# Altium schematic symbol library lib.SchLib: 169 symbols
Pins are listed as number, name and electrical type; pins without a type are passive.

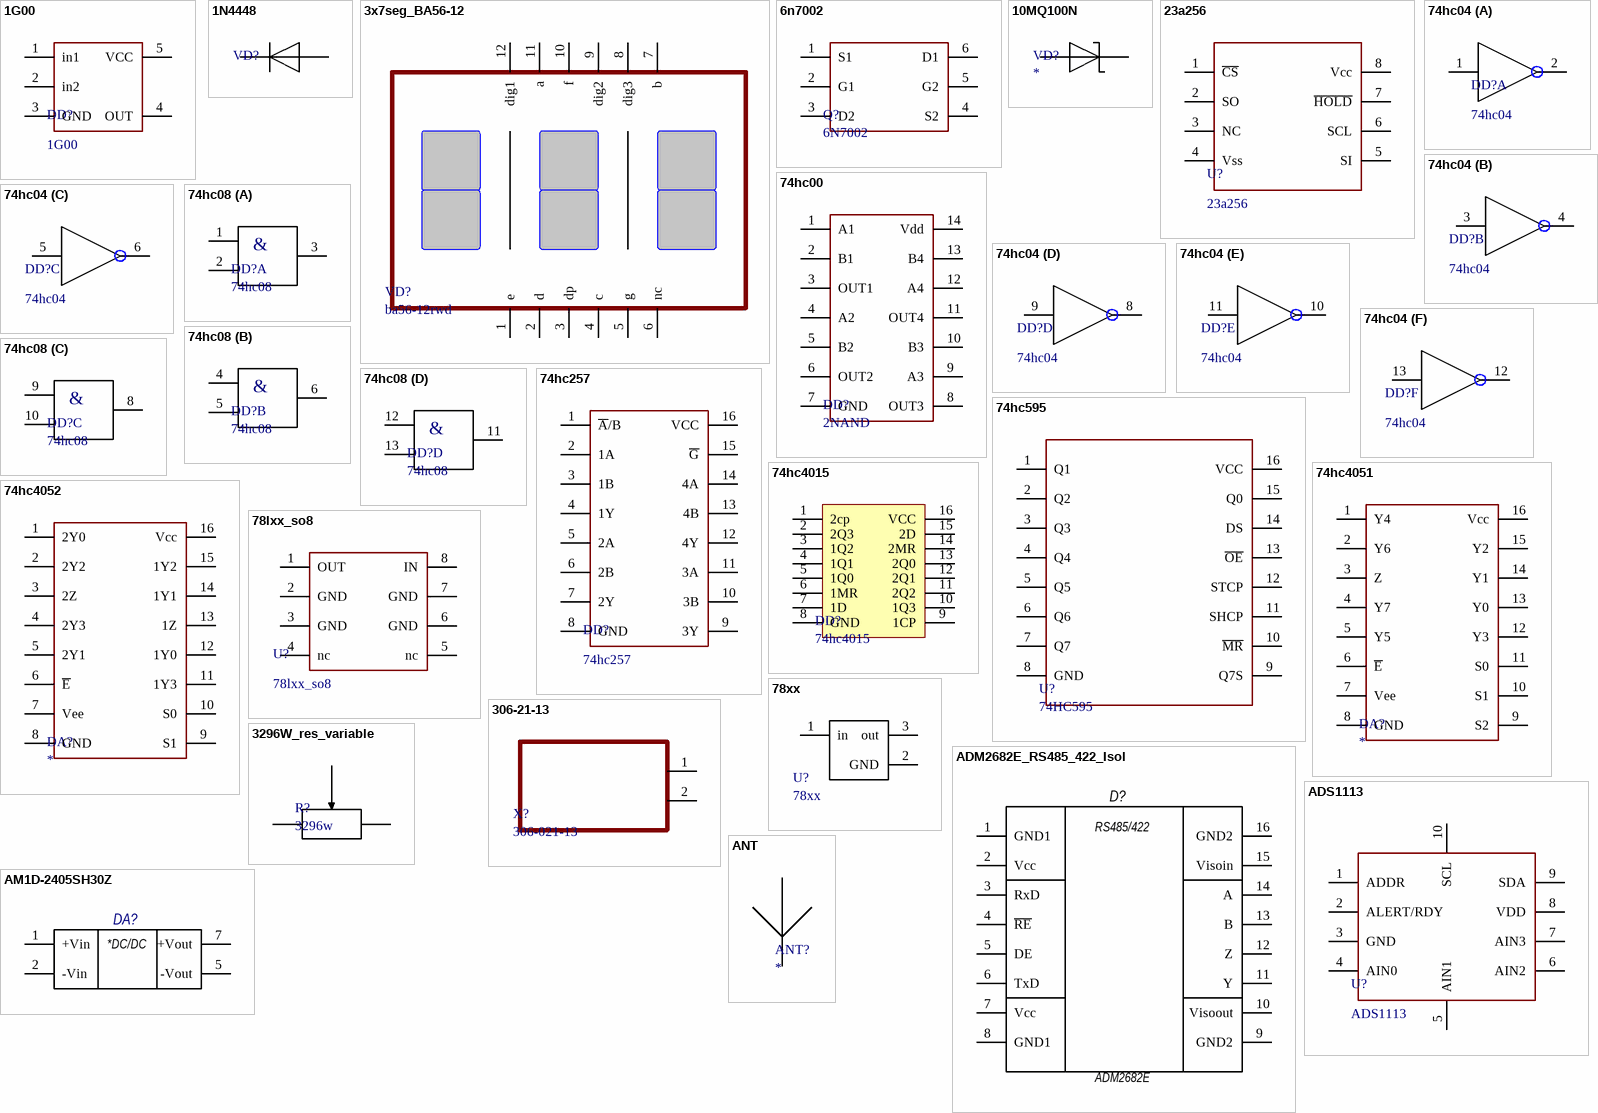
[diagram p0: symbols 1G00 to ANT]

## 1G00
designator DD?
2NAND
footprint sot-23-5
pins: 1 in1, 2 in2, 3 GND, 4 OUT, 5 VCC

## 1N4448
designator VD?  (value not drawn)
footprint SOD-123
footprint sod882
footprint sod-323
pins: A, K

## 3x7seg_BA56-12
designator VD?, comment ba56-12rwd
footprint ba56-12xWA
pins: 1 e, 2 d, 3 dp, 4 c, 5 g, 6 nc, 7 b, 8 dig3, 9 dig2, 10 f, 11 a, 12 dig1

## 6n7002
designator Q?, comment 6N7002
footprint sot-23-6
pins: 1 S1, 2 G1, 3 D2, 4 S2, 5 G2, 6 D1

## 10MQ100N
designator VD?
footprint SMC
footprint SMB
pins: A, K

## 23a256
designator U?
sram
footprint SO-8
pins: 1 ~{CS}, 2 SO, 3 NC, 4 Vss, 5 SI, 6 SCL, 7 ~{HOLD}, 8 Vcc

## 74hc00
designator DD?, comment 2NAND
footprint DIP14
footprint TSSOP14
pins: 1 A1, 2 B1, 3 OUT1, 4 A2, 5 B2, 6 OUT2, 7 GND, 8 OUT3, 9 A3, 10 B3, 11 OUT4, 12 A4, 13 B4, 14 Vdd

## 74hc04
designator DD?
footprint TSSOP14
footprint SO-14
footprint DIP14
part A pins: 1, 2, 7 GND hidden to GND, 14 VCC hidden to VCC
part B pins: 3 1, 4 2
part C pins: 5 1, 6 2
part D pins: 8 2, 9 1
part E pins: 10 2, 11 1
part F pins: 12 2, 13 1

## 74hc08
designator DD?
footprint TSSOP14
footprint DIP14
footprint SO-14
part A pins: 1, 2, 3, 7 GND (power) hidden to GND, 14 VCC (power) hidden to VCC
part B pins: 4 1, 5 2, 6 3
part C pins: 8 3, 9 1, 10 2
part D pins: 11 3, 12 1, 13 2
part A text: &
part B text: &
part C text: &
part D text: &

## 74hc257
designator DD?
footprint TSSOP16
footprint DIP16
footprint SO-16
pins: 1 ~{A}/B, 2 1A, 3 1B, 4 1Y, 5 2A, 6 2B, 7 2Y, 8 GND, 9 3Y, 10 3B, 11 3A, 12 4Y, 13 4B, 14 4A, 15 ~{G}, 16 VCC

## 74hc595
designator U?, comment 74HC595
footprint TSSOP16
pins: 1 Q1, 2 Q2, 3 Q3, 4 Q4, 5 Q5, 6 Q6, 7 Q7, 8 GND, 9 Q7S, 10 ~{MR}, 11 SHCP, 12 STCP, 13 ~{OE}, 14 DS, 15 Q0, 16 VCC

## 74hc4015
designator DD?
footprint SO-16
pins: 1 2cp, 2 2Q3, 3 1Q2, 4 1Q1, 5 1Q0, 6 1MR, 7 1D, 8 GND, 9 1CP, 10 1Q3, 11 2Q2, 12 2Q1, 13 2Q0, 14 2MR, 15 2D, 16 VCC

## 74hc4051
designator DA?
footprint DIP16
footprint TSSOP16
pins: 1 Y4, 2 Y6, 3 Z, 4 Y7, 5 Y5, 6 ~{E}, 7 Vee, 8 GND, 9 S2, 10 S1, 11 S0, 12 Y3, 13 Y0, 14 Y1, 15 Y2, 16 Vcc

## 74hc4052
designator DA?
footprint DIP16
footprint TSSOP16
pins: 1 2Y0, 2 2Y2, 3 2Z, 4 2Y3, 5 2Y1, 6 ~{E}, 7 Vee, 8 GND, 9 S1, 10 S0, 11 1Y3, 12 1Y0, 13 1Z, 14 1Y1, 15 1Y2, 16 Vcc

## 78lxx_so8
designator U?
footprint SO-8
pins: 1 OUT, 2 GND, 3 GND, 4 nc, 5 nc, 6 GND, 7 GND, 8 IN

## 78xx
designator U?
footprint D2PAK
pins: 1 in, 2 GND, 3 out

## 306-21-13
designator X?, comment 306-021-13
footprint 306-021-13
footprint pxc_1868076
footprint DG58C-B-2P13
pins: 1, 2

## 3296W_res_variable
designator R?, comment 3296w
footprint 3296w_bourns
pins: 1, 2, 3

## ADM2682E_RS485_422_Isol
designator D?  Type: ADM2682E  (hidden comment: ADM2682E_RS485_422_Isol)
footprint SOIC_16IC_ (D?)
3D model Model Name (Model Description)
pins: 1 GND1, 2 Vcc, 3 RxD, 4 ~{RE}, 5 DE, 6 TxD, 7 Vcc, 8 GND1, 9 GND2, 10 Visoout, 11 Y, 12 Z, 13 B, 14 A, 15 Visoin, 16 GND2
text: RS485/422

## ADS1113
designator U?
footprint X2QFN-10
pins: 1 ADDR, 2 ALERT/RDY, 3 GND, 4 AIN0, 5 AIN1, 6 AIN2, 7 AIN3, 8 VDD, 9 SDA, 10 SCL

## AM1D-2405SH30Z
designator DA?  (value not drawn)
AM1D-2405SH30Z 21.6-26.4V 5V 200mA 3000V 54мА 6мА 220мкF 77%
footprint AM1D-2405
pins: 1 +Vin (power), 2 -Vin (power), 5 -Vout (power), 7 +Vout (power)
text: *DC/DC

## ANT
designator ANT?
footprint ANT
footprint bluetuth
pins: 1

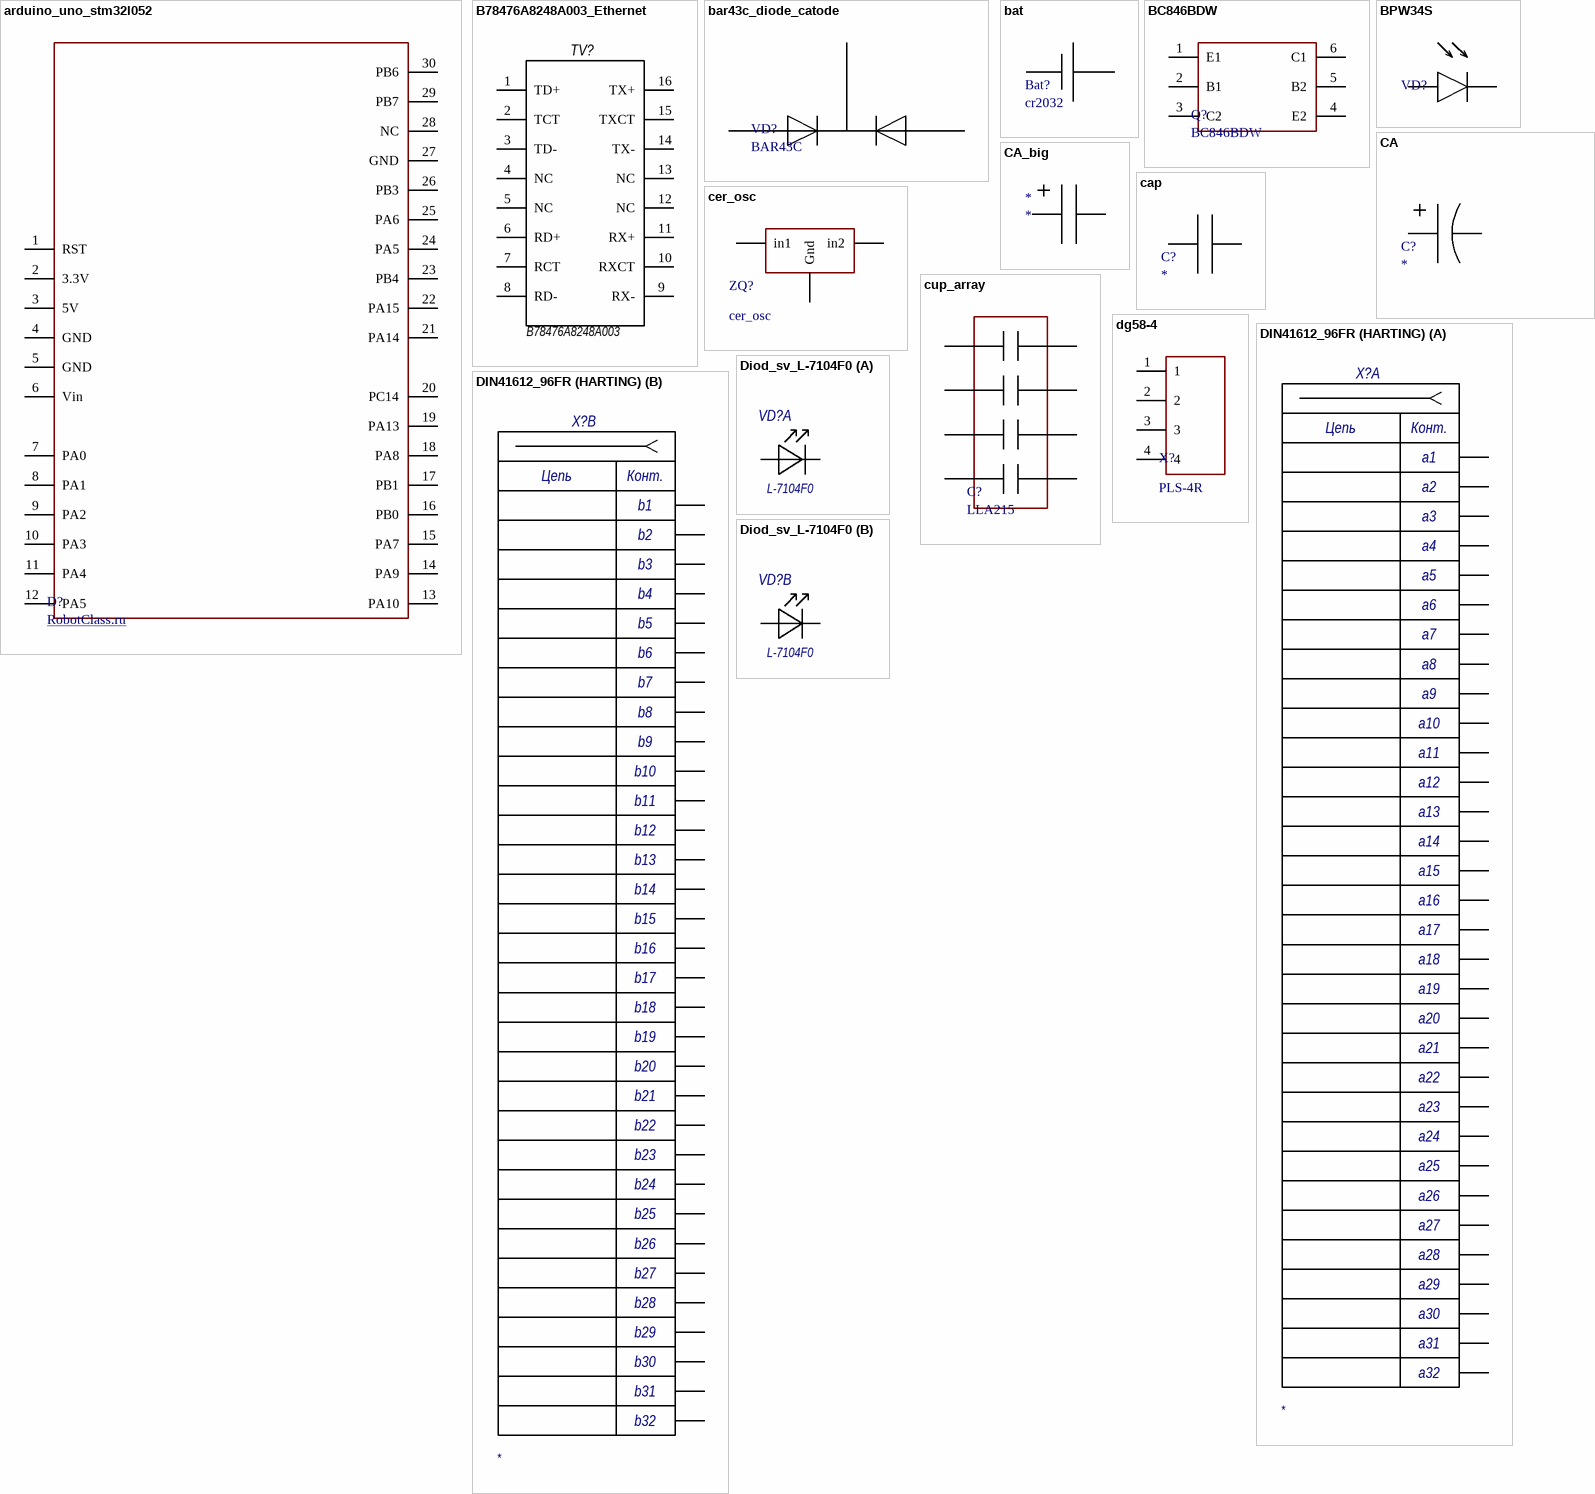
[diagram p1: symbols arduino_uno_stm32l052 to Diod_sv_L-7104F0]

## arduino_uno_stm32l052
designator D?, comment RobotClass.ru
footprint arduino-uno
pins: 1 RST, 2 3.3V, 3 5V, 4 GND, 5 GND, 6 Vin, 7 PA0, 8 PA1, 9 PA2, 10 PA3, 11 PA4, 12 PA5, 13 PA10, 14 PA9, 15 PA7, 16 PB0, 17 PB1, 18 PA8, 19 PA13, 20 PC14, 21 PA14, 22 PA15, 23 PB4, 24 PA5, 25 PA6, 26 PB3, 27 GND, 28 NC, 29 PB7, 30 PB6

## B78476A8248A003_Ethernet
designator TV?, comment Type: B78476A8248A003  (hidden comment: 10/100 Base-T magnetics module)
footprint B78476A8248A003_Ethernet (B78476A8248A003)
pins: 1 TD+, 2 TCT, 3 TD-, 4 NC, 5 NC, 6 RD+, 7 RCT, 8 RD-, 9 RX-, 10 RXCT, 11 RX+, 12 NC, 13 NC, 14 TX-, 15 TXCT, 16 TX+

## bar43c_diode_catode
designator VD?, comment BAR43C
footprint sot23
pins: 1, 2, 3

## bat
designator Bat?, comment cr2032
footprint Bat
pins: +, -

## BC846BDW
designator Q?
footprint sot-23-6
pins: 1 E1, 2 B1, 3 C2, 4 E2, 5 B2, 6 C1

## BPW34S
designator VD?, comment bpw34s  (value not drawn)
photodiode
footprint bpw34s
pins: A, K

## CA
designator C?
footprint СА63_54
footprint tamtalum_d
footprint tantaliumB
footprint radial13x20
pins: 1, 2

## CA_big
designator *
footprint CA_big
pins: 1, 2

## cap
designator C?
footprint 0805 - cap
footprint 1206-cap
footprint 0603_cap
footprint cap_0402
footprint cup-0201
footprint SUPER_CAP
pins: 1, 2

## cer_osc
designator ZQ?
cstcv (murata)
footprint CSTCV
pins: 1 in1, 2 Gnd, 3 in2

## cup_array
designator C?, comment LLA215
footprint cap0805_array
pins: 1, 2, 3, 4, 5, 6, 7, 8

## dg58-4
designator X?, comment PLS-4R
footprint DG58C-B-4P13
pins: 1, 2, 3, 4

## DIN41612_96FR (HARTING)
designator X?
Type: *
footprint DIN41612 3x32 64FR (96-Pin DIN Standard Right Angle Male PCB Mount Connector Розетка)
part A pins: a1, a2, a3, a4, a5, a6, a7, a8, a9, a10, a11, a12, a13, a14, a15, a16, a17, a18, a19, a20, a21, a22, a23, a24, a25, a26, a27, a28, a29, a30, a31, a32
part B pins: b1, b2, b3, b4, b5, b6, b7, b8, b9, b10, b11, b12, b13, b14, b15, b16, b17, b18, b19, b20, b21, b22, b23, b24, b25, b26, b27, b28, b29, b30, b31, b32
part A text: Цепь; Конт.
part B text: Цепь; Конт.

## Diod_sv_L-7104F0
designator VD?  Type: L-7104F0  (hidden comment: *)
footprint L-7104_
part A pins: 1 A1, 2 K1
part B pins: 3 A2, 4 K2

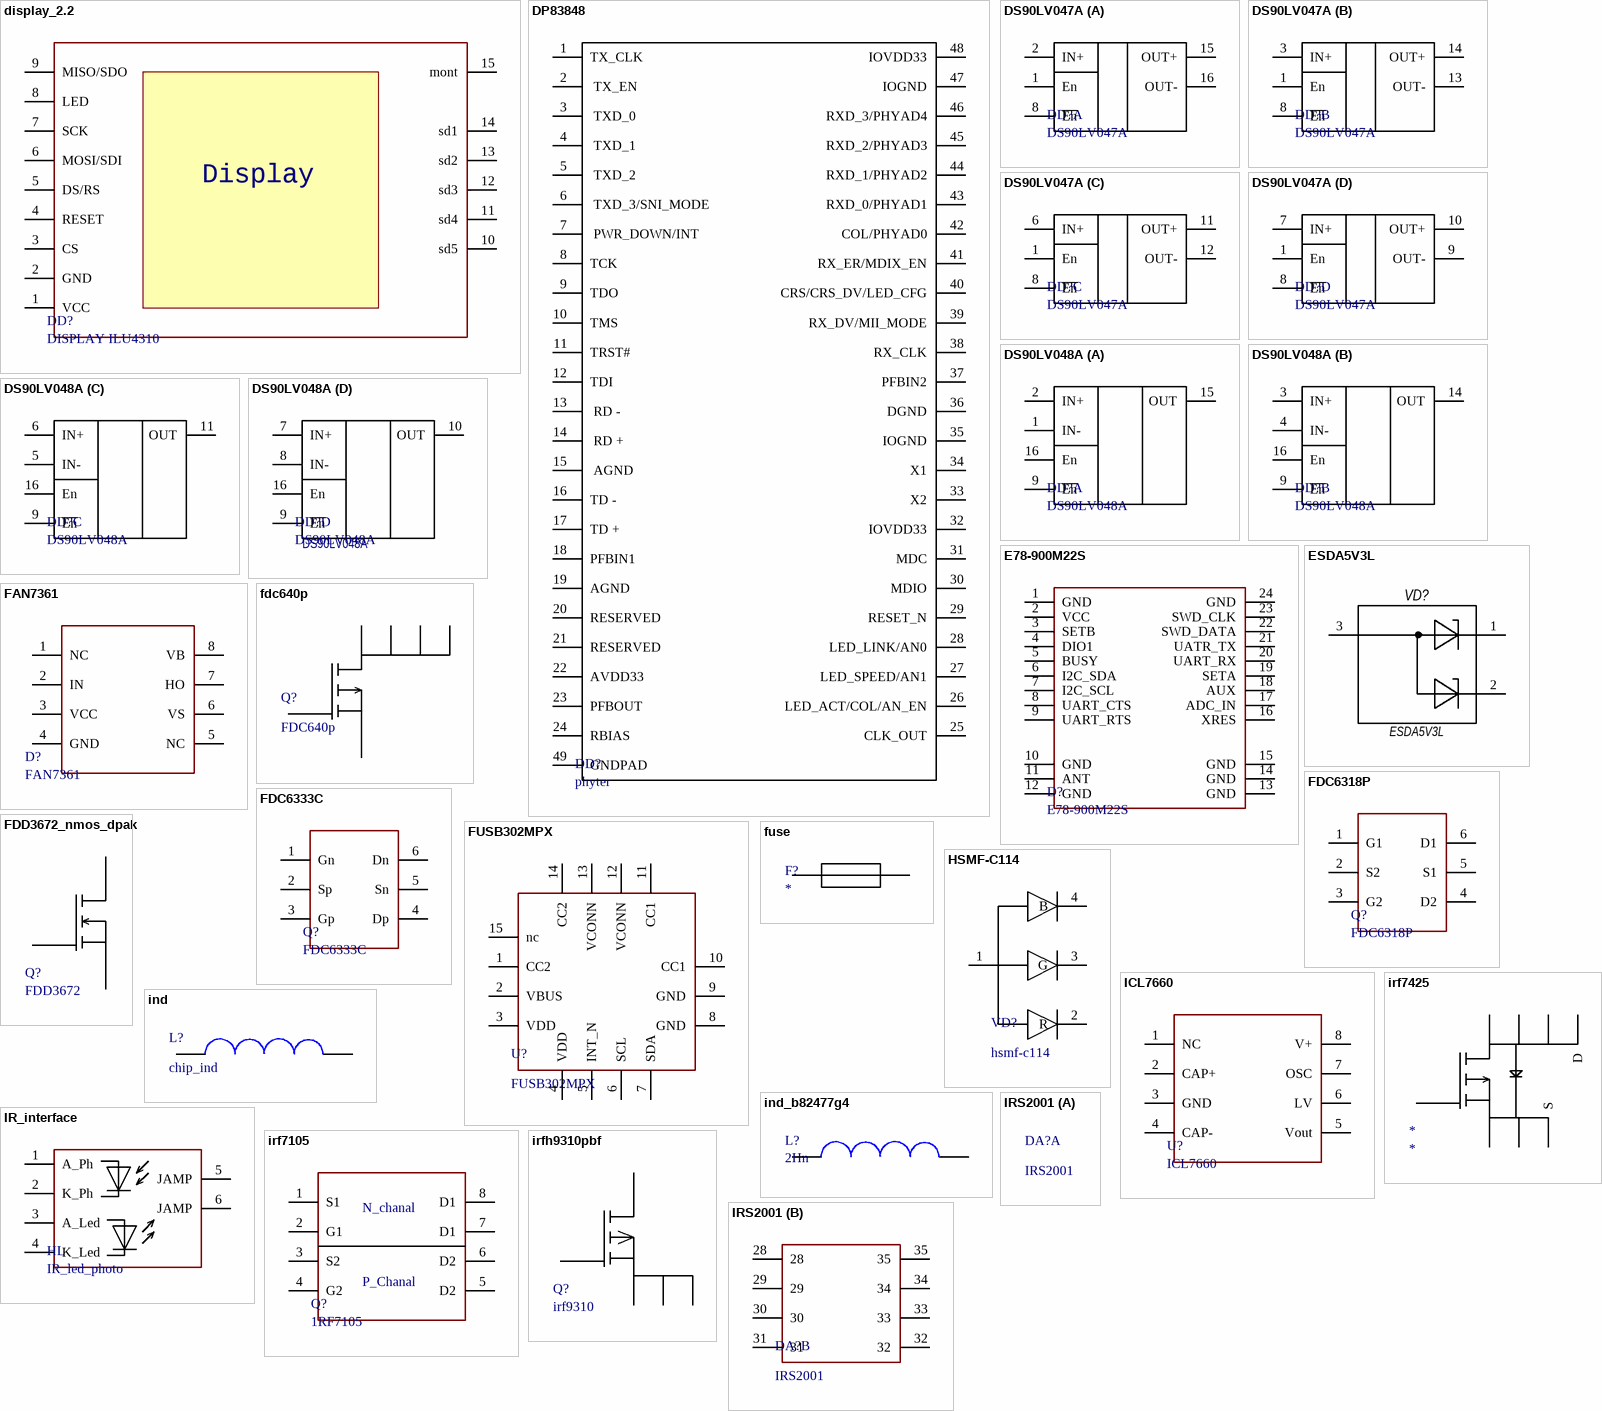
[diagram p2: symbols display_2.2 to IRS2001]

## display_2.2
designator DD?, comment DISPLAY ILU4310
footprint DIP18
pins: 1 VCC, 2 GND, 3 CS, 4 RESET, 5 DS/RS, 6 MOSI/SDI, 7 SCK, 8 LED, 9 MISO/SDO, 10 sd5, 11 sd4, 12 sd3, 13 sd2, 14 sd1, 15 mont
text: Display

## DP83848
designator DD?, comment phyter
footprint HVQFP48
pins: 1 TX_CLK, 2  TX_EN , 3  TXD_0 , 4  TXD_1 , 5  TXD_2 , 6  TXD_3/SNI_MODE , 7  PWR_DOWN/INT , 8 TCK , 9 TDO , 10 TMS , 11 TRST# , 12 TDI , 13  RD - , 14  RD + , 15  AGND , 16 TD - , 17 TD + , 18 PFBIN1 , 19 AGND, 20 RESERVED , 21 RESERVED , 22 AVDD33 , 23 PFBOUT , 24 RBIAS , 25 CLK_OUT, 26 LED_ACT/COL/AN_EN, 27 LED_SPEED/AN1, 28  LED_LINK/AN0, 29 RESET_N, 30 MDIO, 31 MDC, 32  IOVDD33, 33  X2, 34 X1, 35  IOGND, 36  DGND, 37 PFBIN2, 38  RX_CLK, 39 RX_DV/MII_MODE, 40 CRS/CRS_DV/LED_CFG, 41 RX_ER/MDIX_EN, 42 COL/PHYAD0, 43 RXD_0/PHYAD1, 44  RXD_1/PHYAD2, 45 RXD_2/PHYAD3, 46 RXD_3/PHYAD4, 47  IOGND, 48 IOVDD33, 49 GNDPAD

## DS90LV047A
designator DD?
footprint TSSOP16
part A pins: 1 En, 2 IN+, 4 VCC (power) hidden to VCC, 5 GND (power) hidden to GND, 8 ~{En}, 15 OUT+, 16 OUT-
part B pins: 1 En, 3 IN+, 4 VCC (power) hidden to VCC, 5 GND (power) hidden to GND, 8 ~{En}, 13 OUT-, 14 OUT+
part C pins: 1 En, 4 VCC (power) hidden to VCC, 5 GND (power) hidden to GND, 6 IN+, 8 ~{En}, 11 OUT+, 12 OUT-
part D pins: 1 En, 4 VCC (power) hidden to VCC, 5 GND (power) hidden to GND, 7 IN+, 8 ~{En}, 9 OUT-, 10 OUT+

## DS90LV048A
designator DD?
footprint TSSOP16
part A pins: 1 IN-, 2 IN+, 9 ~{En}, 12 GND (power) hidden to GND, 13 VCC (power) hidden to VCC, 15 OUT, 16 En
part B pins: 3 IN+, 4 IN-, 9 ~{En}, 12 GND (power) hidden to GND, 13 VCC (power) hidden to VCC, 14 OUT, 16 En
part C pins: 5 IN-, 6 IN+, 9 ~{En}, 11 OUT, 12 GND (power) hidden to GND, 13 VCC (power) hidden to VCC, 16 En
part D pins: 7 IN+, 8 IN-, 9 ~{En}, 10 OUT, 12 GND (power) hidden to GND, 13 VCC (power) hidden to VCC, 16 En

## E78-900M22S
designator D?
LoaWAN
footprint E78-900M22S
pins: 1 GND, 2 VCC, 3 SETB, 4 DIO1, 5 BUSY, 6 I2C_SDA, 7 I2C_SCL, 8 UART_CTS, 9 UART_RTS, 10 GND, 11 ANT, 12 GND, 13 GND, 14 GND, 15 GND, 16 XRES, 17 ADC_IN, 18 AUX, 19 SETA, 20 UART_RX, 21 UATR_TX, 22 SWD_DATA, 23 SWD_CLK, 24 GND

## ESDA5V3L
designator VD?
Type: ESDA5V3L
footprint sot23
pins: 1, 2, 3

## FAN7361
designator D?
mosfet high level
footprint SOP8
pins: 1 NC, 2 IN, 3 VCC, 4 GND, 5 NC, 6 VS, 7 HO, 8 VB

## fdc640p
designator Q?, comment FDC640p
footprint sot-23-6
pins: 1 D, 2 D, 3 G, 4 S, 5 D, 6 D

## FDC6318P
designator Q?
footprint sot-23-6
pins: 1 G1, 2 S2, 3 G2, 4 D2, 5 S1, 6 D1

## FDC6333C
designator Q?
footprint sot-23-6
pins: 1 Gn, 2 Sp, 3 Gp, 4 Dp, 5 Sn, 6 Dn

## FDD3672_nmos_dpak
designator Q?, comment FDD3672
footprint d-pak
pins: 1 G, 2 D, 3 S

## FUSB302MPX
designator U?
footprint MLP14
pins: 1 CC2, 2 VBUS, 3 VDD, 4 VDD, 5 INT_N, 6 SCL, 7 SDA, 8 GND, 9 GND, 10 CC1, 11 CC1, 12 VCONN, 13 VCONN, 14 CC2, 15 nc

## fuse
designator F?
footprint 1812
footprint fuse1210
pins: 1, 2

## HSMF-C114
designator VD?, comment hsmf-c114
footprint RGB_led
footprint LNJ757W86RA
pins: 1, 2 R, 3 G, 4 B

## ICL7660
designator U?
footprint SO-8
pins: 1 NC, 2 CAP+, 3 GND, 4 CAP-, 5 Vout, 6 LV, 7 OSC, 8 V+

## ind
designator L?, comment chip_ind
footprint 0603_ind
footprint 0805-ind
footprint 1210-ind
footprint ind_0402
pins: 1, 2

## ind_b82477g4
designator L?, comment 2Hn
footprint B82477G4
footprint RM6_inductor
footprint srp1038a
footprint ihlp5050
footprint ihlp4040
footprint 2012_ind
footprint ihlp2525
footprint ihlp6767GZ-01
footprint ifsc1515
footprint ihlp2020
footprint ihlp1616bz
footprint ihlp5050fd
pins: 1, 2

## IR_interface
designator HL, comment IR_led_photo
footprint IR_interface
pins: 1 A_Ph, 2 K_Ph, 3 A_Led, 4 K_Led, 5 JAMP, 6 JAMP

## irf7105
designator Q?, comment 1RF7105
footprint SO-8
pins: 1 S1, 2 G1, 3 S2, 4 G2, 5 D2, 6 D2, 7 D1, 8 D1
text: N_chanal; P_Chanal

## irf7425
designator *
footprint SO-8
pins: 1 S, 2 S, 3 S, 4 G, 5 D, 6 D, 7 D, 8 D

## irfh9310pbf
designator Q?, comment irf9310
footprint powerFLAT_5x6
footprint TSDSON-8
pins: 1 S, 2 S, 3 S, 4 G, 5 D

## IRS2001
designator DA?
half brige
part B pins: 28, 29, 30, 31, 32, 33, 34, 35

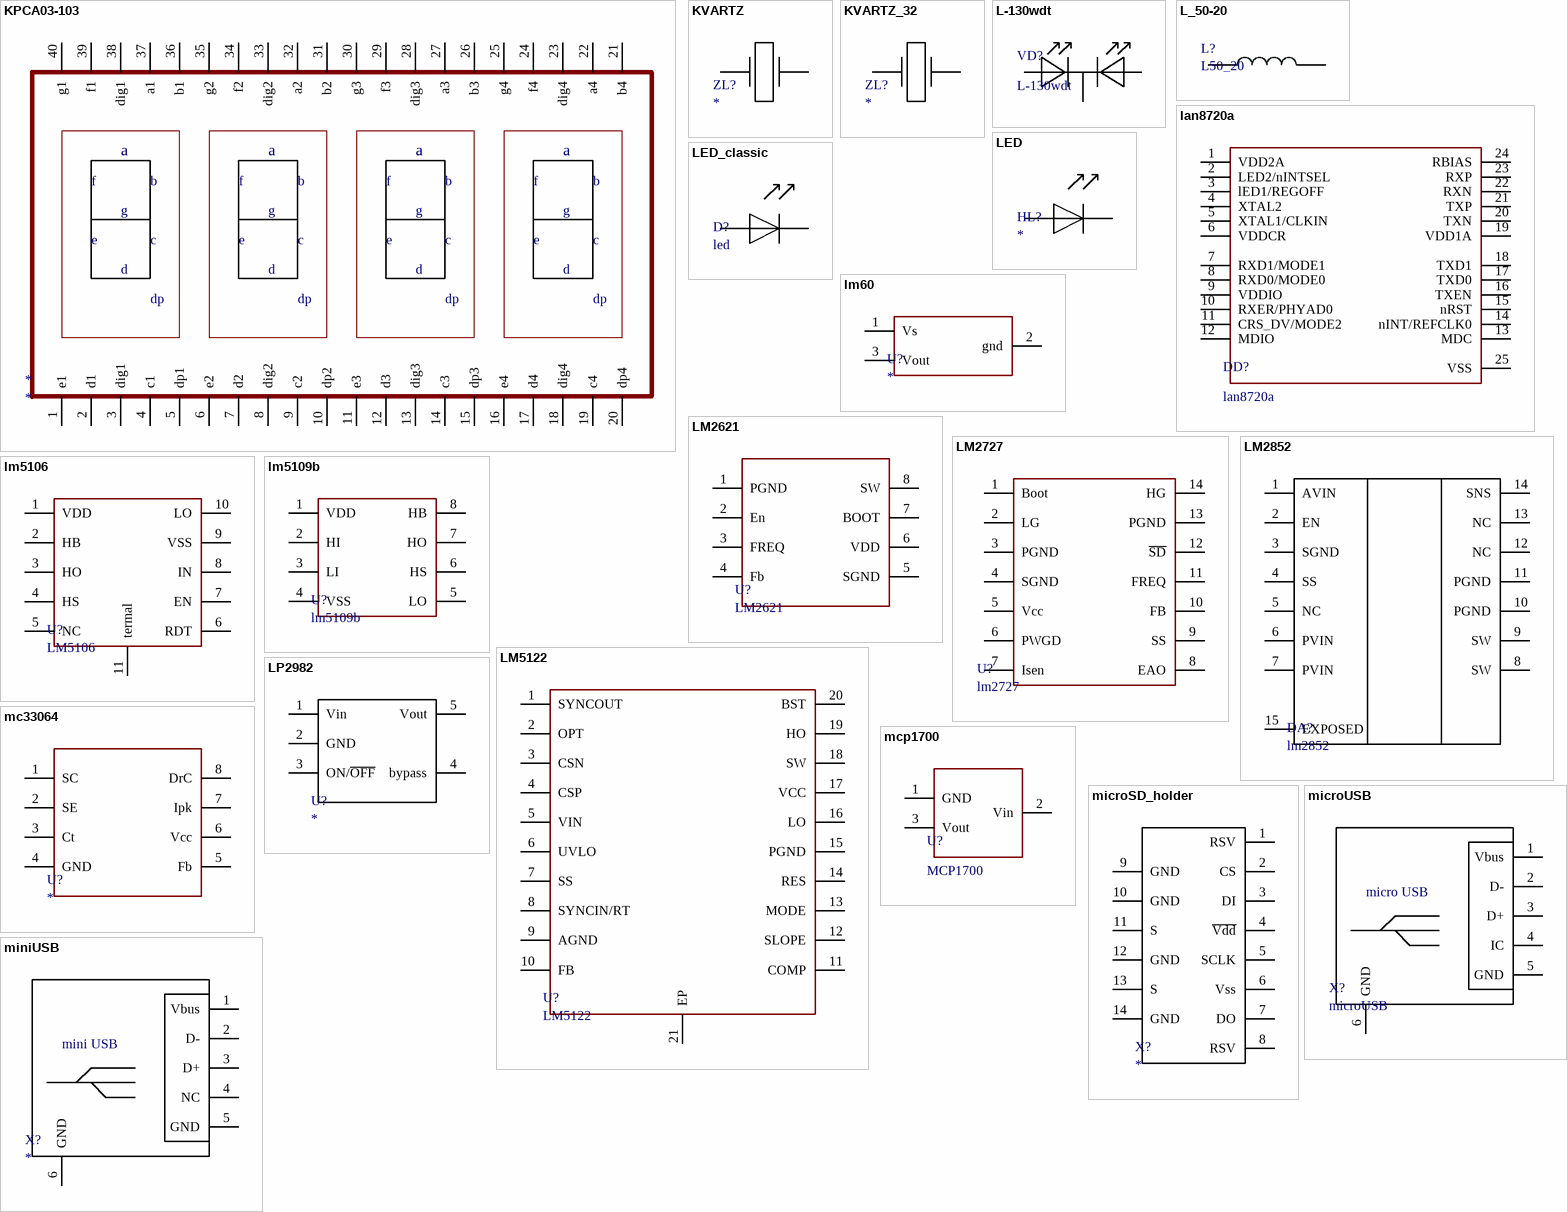
[diagram p3: symbols KPCA03-103 to miniUSB]

## KPCA03-103
designator *
footprint kpca03-103
pins: 1 e1, 2 d1, 3 dig1, 4 c1, 5 dp1, 6 e2, 7 d2, 8 dig2, 9 c2, 10 dp2, 11 e3, 12 d3, 13 dig3, 14 c3, 15 dp3, 16 e4, 17 d4, 18 dig4, 19 c4, 20 dp4, 21 b4, 22 a4, 23 dig4, 24 f4, 25 g4, 26 b3, 27 a3, 28 dig3, 29 f3, 30 g3, 31 b2, 32 a2, 33 dig2, 34 f2, 35 g2, 36 b1, 37 a1, 38 dig1, 39 f1, 40 g1
text: a; f; b; g; e; c; d; dp

## KVARTZ
designator ZL?
footprint tsx-3225
footprint HC49US
footprint fa-128
pins: 1, 2

## KVARTZ_32
designator ZL?
footprint kvartz32
footprint zm206
pins: 1, 2

## L-130wdt
designator VD?
footprint L-130WDT
pins: 1 A1, 2 K, 3 A2

## L_50-20
designator L?, comment L50_20
footprint L50-20
pins: 1, 2

## lan8720a
designator DD?
phy rmii
footprint Qfn24
pins: 1 VDD2A, 2 LED2/nINTSEL, 3 lED1/REGOFF, 4 XTAL2, 5 XTAL1/CLKIN, 6 VDDCR, 7 RXD1/MODE1, 8 RXD0/MODE0, 9 VDDIO, 10 RXER/PHYAD0, 11 CRS_DV/MODE2, 12 MDIO, 13 MDC, 14 nINT/REFCLK0, 15 nRST, 16 TXEN, 17 TXD0, 18 TXD1, 19 VDD1A, 20 TXN, 21 TXP, 22 RXN, 23 RXP, 24 RBIAS, 25 VSS

## LED
designator HL?
footprint 0603_led
footprint led_0805
pins: A 1, K 2

## LED_classic
designator D?, comment led
footprint LED_classic
pins: 1, 2

## lm60
designator U?
footprint sot23
pins: 1 Vs, 2 gnd, 3 Vout

## LM2621
designator U?
footprint VSSOP_8
pins: 1 PGND, 2 En, 3 FREQ, 4 Fb, 5 SGND, 6 VDD, 7 BOOT, 8 SW

## LM2727
designator U?, comment lm2727
footprint TSSOP14
pins: 1 Boot, 2 LG, 3 PGND, 4 SGND, 5 Vcc, 6 PWGD, 7 Isen, 8 EAO, 9 SS, 10 FB, 11 FREQ, 12 ~{SD}, 13 PGND, 14 HG

## LM2852
designator DA?, comment lm2852
footprint HTSSOP14N (TSSOP, 14-Leads, Body 5,00x4,40mm, Pitch 0,65mm, IPC Medium Density)
pins: 1 AVIN, 2 EN, 3 SGND, 4 SS, 5 NC, 6 PVIN, 7 PVIN, 8 SW, 9 SW, 10 PGND, 11 PGND, 12 NC, 13 NC, 14 SNS, 15 EXPOSED

## lm5106
designator U?, comment LM5106
footprint wson10
pins: 1 VDD, 2 HB, 3 HO, 4 HS, 5 NC, 6 RDT, 7 EN, 8 IN, 9 VSS, 10 LO, 11 termal

## lm5109b
designator U?
footprint SO-8
pins: 1 VDD, 2 HI, 3 LI, 4 VSS, 5 LO, 6 HS, 7 HO, 8 HB

## LM5122
designator U?
footprint HTSSOP20
pins: 1 SYNCOUT, 2 OPT, 3 CSN, 4 CSP, 5 VIN, 6 UVLO, 7 SS, 8 SYNCIN/RT, 9 AGND, 10 FB, 11 COMP, 12 SLOPE, 13 MODE, 14 RES, 15 PGND, 16 LO, 17 VCC, 18 SW, 19 HO, 20 BST, 21 EP

## LP2982
designator U?
footprint sot-23
footprint sot-23-5
pins: 1 Vin, 2 GND, 3 ON/~{OFF}, 4 bypass, 5 Vout

## mc33064
designator U?
footprint SO-8
pins: 1 SC, 2 SE, 3 Ct, 4 GND, 5 Fb, 6 Vcc, 7 Ipk, 8 DrC

## mcp1700
designator U?, comment MCP1700
footprint sot23
pins: 1 GND, 2 Vin, 3 Vout

## microSD_holder
designator X?
footprint microSDholder
pins: 1 RSV, 2 CS, 3 DI, 4 ~{Vdd}, 5 SCLK, 6 Vss, 7 DO, 8 RSV, 9 GND, 10 GND, 11 S, 12 GND, 13 S, 14 GND

## microUSB
designator X?
footprint microUSB
pins: 1 Vbus, 2 D-, 3 D+, 4 IC, 5 GND, 6 GND
text: micro USB

## miniUSB
designator X?
footprint miniUSB
pins: 1 Vbus, 2 D-, 3 D+, 4 NC, 5 GND, 6 GND
text: mini USB

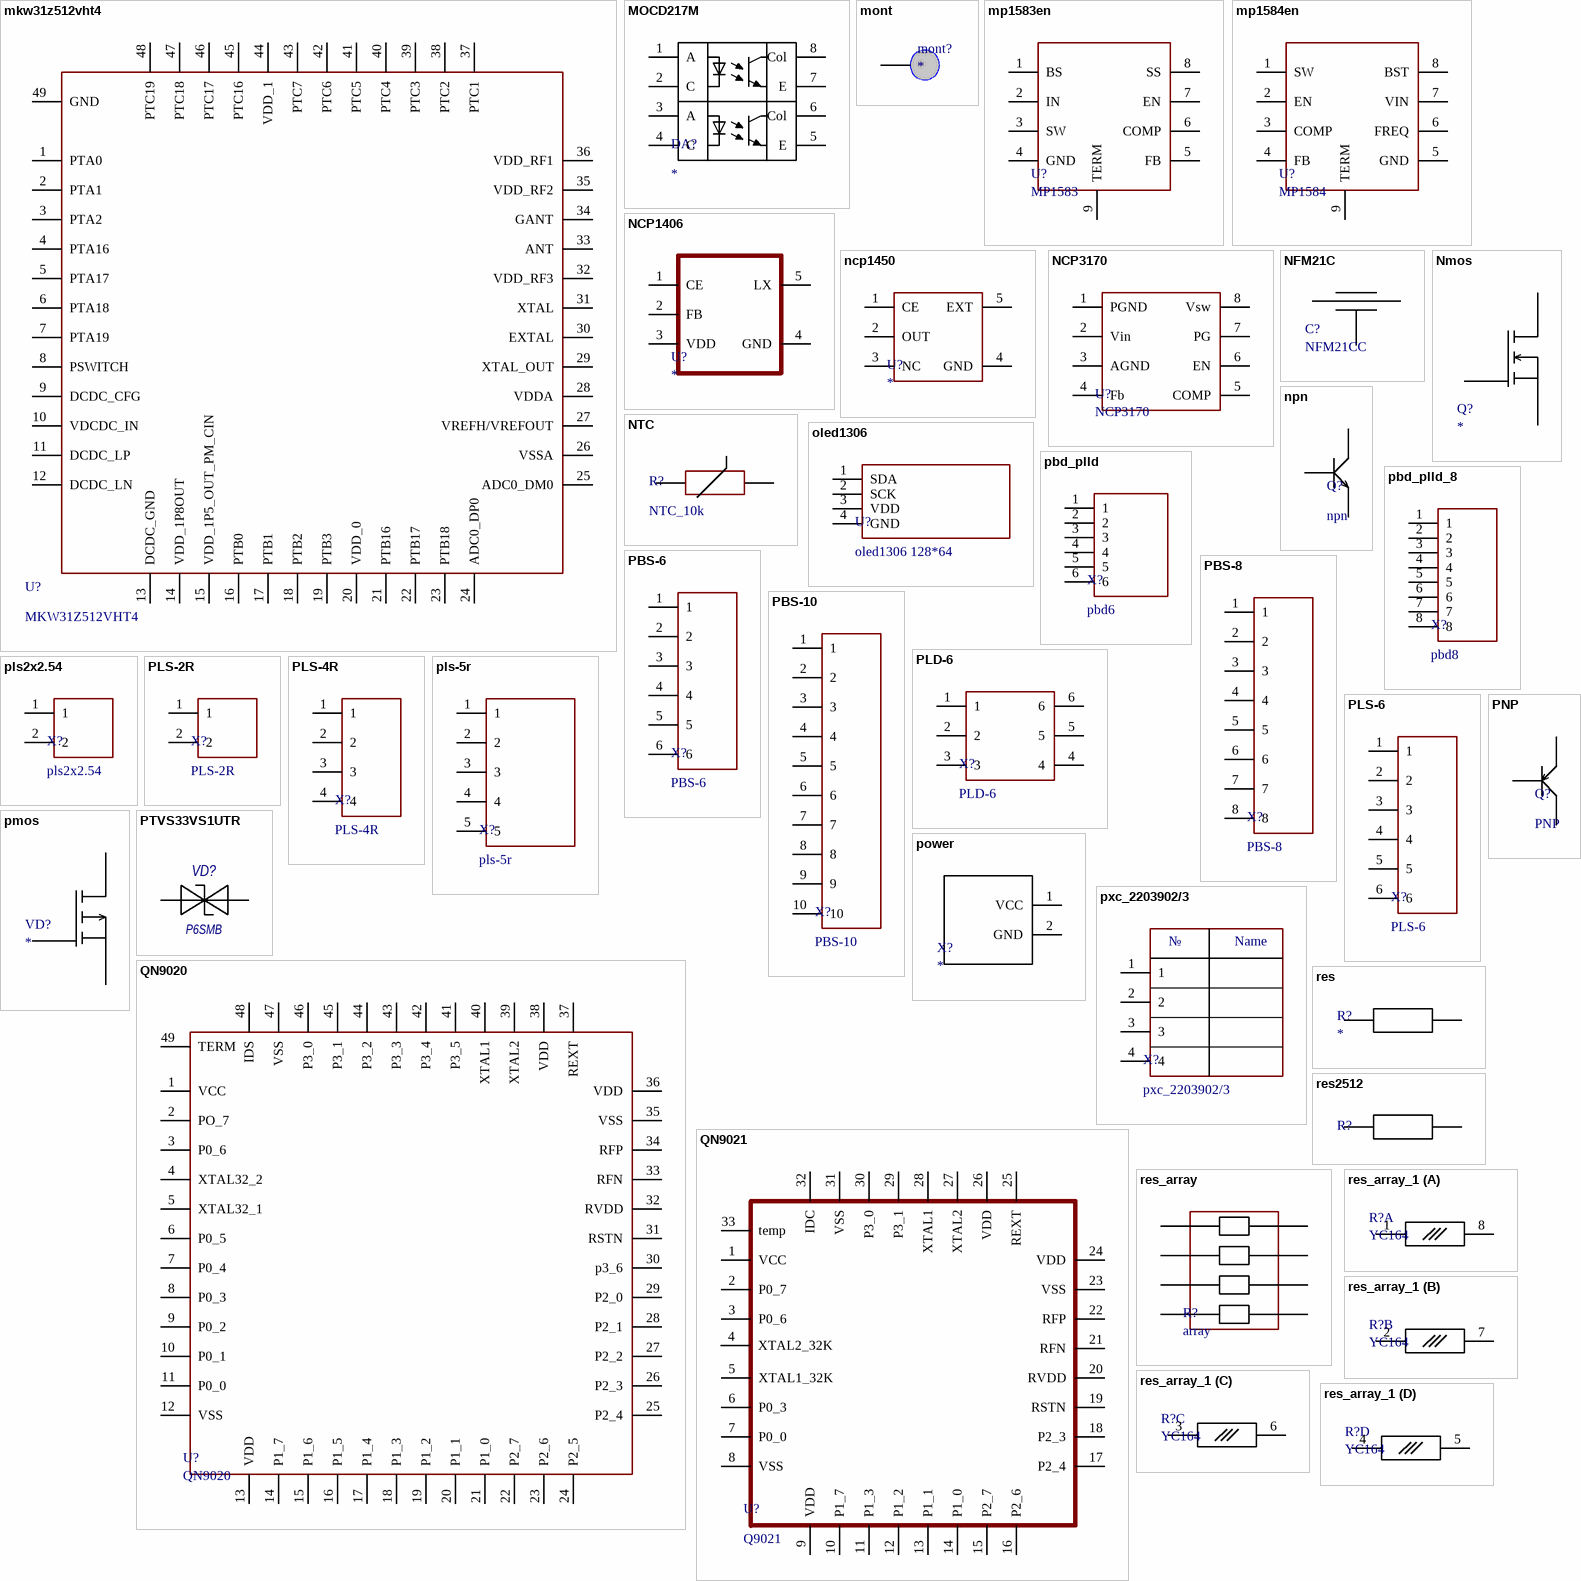
[diagram p4: symbols mkw31z512vht4 to res_array_1]

## mkw31z512vht4
designator U?, comment MKW31Z512VHT4
footprint LQFN48
pins: 1 PTA0, 2 PTA1, 3 PTA2, 4 PTA16, 5 PTA17, 6 PTA18, 7 PTA19, 8 PSWITCH, 9 DCDC_CFG, 10 VDCDC_IN, 11 DCDC_LP, 12 DCDC_LN, 13 DCDC_GND, 14 VDD_1P8OUT, 15 VDD_1P5_OUT_PM_CIN, 16 PTB0, 17 PTB1, 18 PTB2, 19 PTB3, 20 VDD_0, 21 PTB16, 22 PTB17, 23 PTB18, 24 ADC0_DP0, 25 ADC0_DM0, 26 VSSA, 27 VREFH/VREFOUT, 28 VDDA, 29 XTAL_OUT, 30 EXTAL, 31 XTAL, 32 VDD_RF3, 33 ANT, 34 GANT, 35 VDD_RF2, 36 VDD_RF1, 37 PTC1, 38 PTC2, 39 PTC3, 40 PTC4, 41 PTC5, 42 PTC6, 43 PTC7, 44 VDD_1, 45 PTC16, 46 PTC17, 47 PTC18, 48 PTC19, 49 GND

## MOCD217M
designator DA?
dual optopair
footprint SO-8_optocup
pins: 1 A, 2 C, 3 A, 4 C, 5 E, 6 Col, 7 E, 8 Col

## mont
designator mont?
footprint mont
pins: 1

## mp1583en
designator U?, comment MP1583
footprint SO-8E
pins: 1 BS, 2 IN, 3 SW, 4 GND, 5 FB, 6 COMP, 7 EN, 8 SS, 9 TERM

## mp1584en
designator U?, comment MP1584
footprint SO-8E
pins: 1 SW, 2 EN, 3 COMP, 4 FB, 5 GND, 6 FREQ, 7 VIN, 8 BST, 9 TERM

## NCP1406
designator U?
footprint sot-23-5
pins: 1 CE, 2 FB, 3 VDD, 4 GND, 5 LX

## ncp1450
designator U?
footprint sot-23-5
pins: 1 CE, 2 OUT, 3 NC, 4 GND, 5 EXT

## NCP3170
designator U?
footprint SO-8
pins: 1 PGND, 2 Vin, 3 AGND, 4 Fb, 5 COMP, 6 EN, 7 PG, 8 Vsw

## NFM21C
designator C?, comment NFM21CC
NFM21CC102R1H3
footprint NFM21C
pins: 1 in, 2 out, 3 Gnd

## Nmos
designator Q?
footprint sot23
pins: 1 G, 2 D, 3 S

## npn
designator Q?
bc817
footprint sot23
footprint d-pak
pins: 1 B, 2 K, 3 E

## NTC
designator R?, comment NTC_10k
footprint ntc_jt_103
pins: 1, 2

## oled1306
designator U?, comment oled1306 128*64
footprint oled1306
pins: 1 SDA, 2 SCK, 3 VDD, 4 GND

## pbd_plld
designator X?, comment pbd6
footprint pbd
footprint plld
pins: 1, 2, 3, 4, 5, 6

## pbd_plld_8
designator X?, comment pbd8
footprint pbd8
footprint pllb8
pins: 1, 2, 3, 4, 5, 6, 7, 8

## PBS-6
designator X?
footprint PBS6
pins: 1, 2, 3, 4, 5, 6

## PBS-8
designator X?
footprint PBS8
pins: 1, 2, 3, 4, 5, 6, 7, 8

## PBS-10
designator X?
footprint pbs-10
pins: 1, 2, 3, 4, 5, 6, 7, 8, 9, 10

## PLD-6
designator X?
footprint PLD6
pins: 1, 2, 3, 4, 5, 6

## pls2x2.54
designator X?
footprint pls2x2.54
pins: 1, 2

## PLS-2R
designator X?
footprint pls-2r
pins: 1, 2

## PLS-4R
designator X?
footprint pls-4r
pins: 1, 2, 3, 4

## pls-5r
designator X?
footprint pls-5r
pins: 1, 2, 3, 4, 5

## PLS-6
designator X?
footprint PLS6
pins: 1, 2, 3, 4, 5, 6

## pmos
designator VD?
footprint sot23
footprint d-pak
pins: 1 G, 2 S, 3 D

## PNP
designator Q?
footprint sot23
pins: 1 B, 2 E, 3 K

## power
designator X?
footprint POWER
pins: 1 VCC, 2 GND

## PTVS33VS1UTR
designator VD?  Type: P6SMB  (hidden comment: *)
PTVS33VS1UTR,115, TVS DIODE 33VWM 53.3VC SOD123W
footprint SOD-123
pins: A, K

## pxc_2203902/3
designator X?
footprint pxc_2203902
footprint pxc_2203903
pins: 1, 2, 3, 4
text: №; Name

## QN9020
designator U?
footprint hvqfn48
pins: 1 VCC, 2 PO_7, 3 P0_6, 4 XTAL32_2, 5 XTAL32_1, 6 P0_5, 7 P0_4, 8 P0_3, 9 P0_2, 10 P0_1, 11 P0_0, 12 VSS, 13 VDD, 14 P1_7, 15 P1_6, 16 P1_5, 17 P1_4, 18 P1_3, 19 P1_2, 20 P1_1, 21 P1_0, 22 P2_7, 23 P2_6, 24 P2_5, 25 P2_4, 26 P2_3, 27 P2_2, 28 P2_1, 29 P2_0, 30 p3_6, 31 RSTN, 32 RVDD, 33 RFN, 34 RFP, 35 VSS, 36 VDD, 37 REXT, 38 VDD, 39 XTAL2, 40 XTAL1, 41 P3_5, 42 P3_4, 43 P3_3, 44 P3_2, 45 P3_1, 46 P3_0, 47 VSS, 48 IDS, 49 TERM

## QN9021
designator U?, comment Q9021
nxp with bluetuch controller
footprint HVQFN32
pins: 1 VCC, 2 P0_7, 3 P0_6, 4 XTAL2_32K, 5 XTAL1_32K, 6 P0_3, 7 P0_0, 8 VSS, 9 VDD, 10 P1_7, 11 P1_3, 12 P1_2, 13 P1_1, 14 P1_0, 15 P2_7, 16 P2_6, 17 P2_4, 18 P2_3, 19 RSTN, 20 RVDD, 21 RFN, 22 RFP, 23 VSS, 24 VDD, 25 REXT, 26 VDD, 27 XTAL2, 28 XTAL1, 29 P3_1, 30 P3_0, 31 VSS, 32 IDC, 33 temp

## res
designator R?
footprint 0805-res
footprint 0603_res
footprint res_0402
footprint 2512_res
footprint Res-0201
pins: 1, 2

## res2512
designator R?, comment 2512  (value not drawn)
footprint 1812
pins: 1, 2

## res_array
designator R?, comment array
footprint res0603_array
footprint res0805_array
pins: 1, 2, 3, 4, 5 8, 6, 7, 8

## res_array_1
designator R?, comment YC164
footprint YC164
part A pins: 1, 8
part B pins: 2, 7
part C pins: 3, 6
part D pins: 4, 5

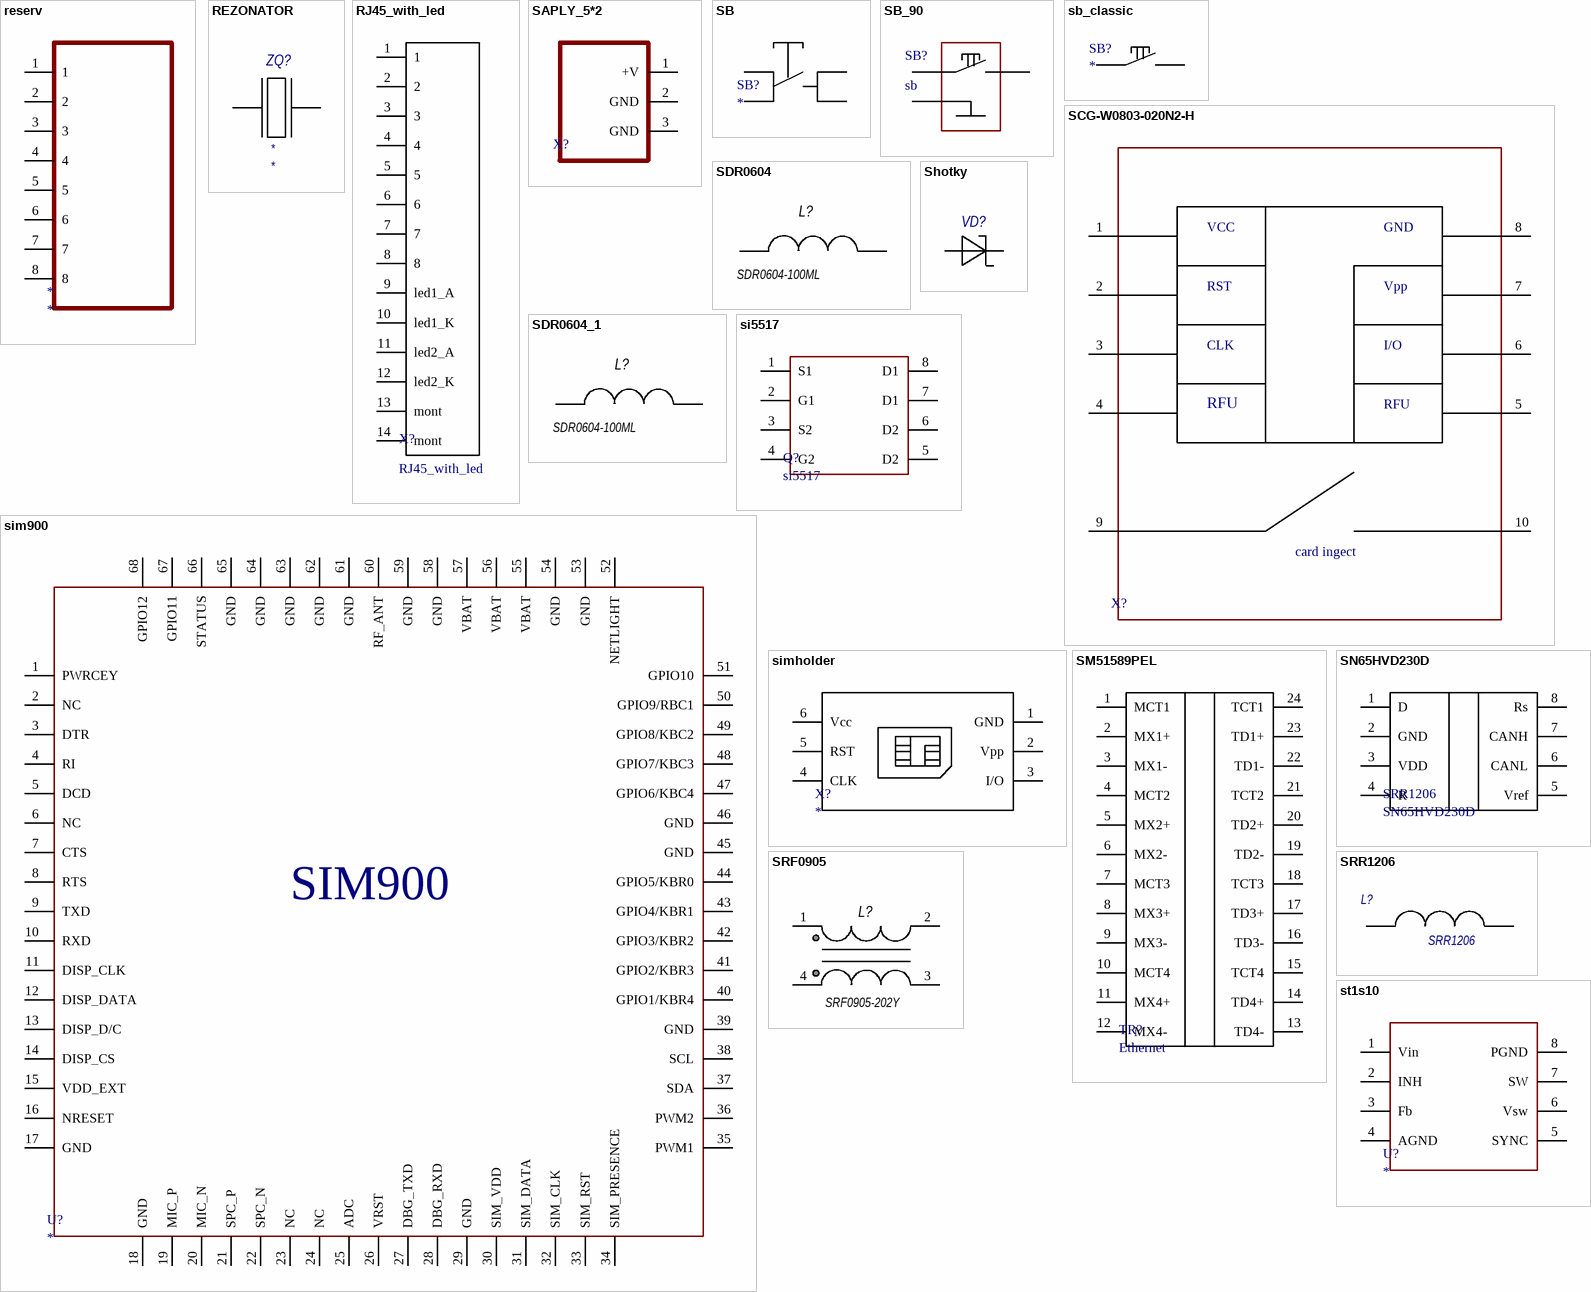
[diagram p5: symbols reserv to st1s10]

## reserv
designator *
footprint reserv
pins: 1, 2, 3, 4, 5, 6, 7, 8

## REZONATOR
designator ZQ?, comment ESX-53-DU  (value not drawn)
Crystal; Type: *; Value: *
footprint ECX-53B-DU (SMX crystals)
pins: 1, 2 hidden to GND, 3, 4 hidden to GND

## RJ45_with_led
designator X?
footprint RG45_w_l
pins: 1, 2, 3, 4, 5, 6, 7, 8, 9 led1_A, 10 led1_K, 11 led2_A, 12 led2_K, 13 mont, 14 mont

## SAPLY_5*2
designator X?  (value not drawn)
footprint SUPLY
pins: 1 +V, 2 GND, 3 GND

## SB
designator SB?
footprint SB
pins: 1, 2, 3, 4

## SB_90
designator SB?, comment sb
footprint sb_90
pins: 1, 2, 3

## sb_classic
designator SB?
footprint sb_classic
pins: 1, 2

## SCG-W0803-020N2-H
designator X?  (value not drawn)
footprint SCG-W08B03-020N2-H
pins: 1 VCC, 2 RST, 3 CLK, 4 RFU, 5 RFU, 6 I/O, 7 Vpp, 8 GND, 9 CIG, 10 CIG
text: card ingect

## SDR0604
designator L?  value SDR0604-100ML  (hidden comment: *)
SDR0604
footprint SDR0604
pins: 1, 2

## SDR0604_1
designator L?  value SDR0604-100ML  (hidden comment: *)
SDR0604
footprint SDR0604_
pins: 1, 2

## Shotky
designator VD?  (value not drawn)
footprint SMC
pins: A, K

## si5517
designator Q?
1 - Nch, 2-Pch
footprint 1206-8
pins: 1 S1, 2 G1, 3 S2, 4 G2, 5 D2, 6 D2, 7 D1, 8 D1

## sim900
designator U?
footprint SIM900
pins: 1 PWRCEY, 2 NC, 3 DTR, 4 RI, 5 DCD, 6 NC, 7 CTS, 8 RTS, 9 TXD, 10 RXD, 11 DISP_CLK, 12 DISP_DATA, 13 DISP_D/C, 14 DISP_CS, 15 VDD_EXT, 16 NRESET, 17 GND, 18 GND, 19 MIC_P, 20 MIC_N, 21 SPC_P, 22 SPC_N, 23 NC, 24 NC, 25 ADC, 26 VRST, 27 DBG_TXD, 28 DBG_RXD, 29 GND, 30 SIM_VDD, 31 SIM_DATA, 32 SIM_CLK, 33 SIM_RST, 34 SIM_PRESENCE, 35 PWM1, 36 PWM2, 37 SDA, 38 SCL, 39 GND, 40 GPIO1/KBR4, 41 GPIO2/KBR3, 42 GPIO3/KBR2, 43 GPIO4/KBR1, 44 GPIO5/KBR0, 45 GND, 46 GND, 47 GPIO6/KBC4, 48 GPIO7/KBC3, 49 GPIO8/KBC2, 50 GPIO9/RBC1, 51 GPIO10, 52 NETLIGHT, 53 GND, 54 GND, 55 VBAT, 56 VBAT, 57 VBAT, 58 GND, 59 GND, 60 RF_ANT, 61 GND, 62 GND, 63 GND, 64 GND, 65 GND, 66 STATUS, 67 GPIO11, 68 GPIO12
text: SIM900

## simholder
designator X?
footprint simholder
pins: 1 GND, 2 Vpp, 3 I/O, 4 CLK, 5 RST, 6 Vcc

## SM51589PEL
designator TR?, comment Ethernet
footprint sm51589pel
pins: 1 MCT1, 2 MX1+, 3 MX1-, 4 MCT2, 5 MX2+, 6 MX2-, 7 MCT3, 8 MX3+, 9 MX3-, 10 MCT4, 11 MX4+, 12 MX4-, 13 TD4-, 14 TD4+, 15 TCT4, 16 TD3-, 17 TD3+, 18 TCT3, 19 TD2-, 20 TD2+, 21 TCT2, 22 TD1-, 23 TD1+, 24 TCT1

## SN65HVD230D
designator SRR1206
SN65HVD230D CAN driver
footprint SO-8_
pins: 1 D, 2 GND, 3 VDD, 4 R, 5 Vref, 6 CANL, 7 CANH, 8 Rs

## SRF0905
designator L?  value SRF0905-202Y  (hidden comment: *)
footprint SRF0905 (Inductor, 4-Leads)
pins: 1, 2, 3, 4

## SRR1206
designator L?
Value: *; Type: SRR1206
footprint SRR1206
pins: 1, 2

## st1s10
designator U?
footprint SO-8
pins: 1 Vin, 2 INH, 3 Fb, 4 AGND, 5 SYNC, 6 Vsw, 7 SW, 8 PGND

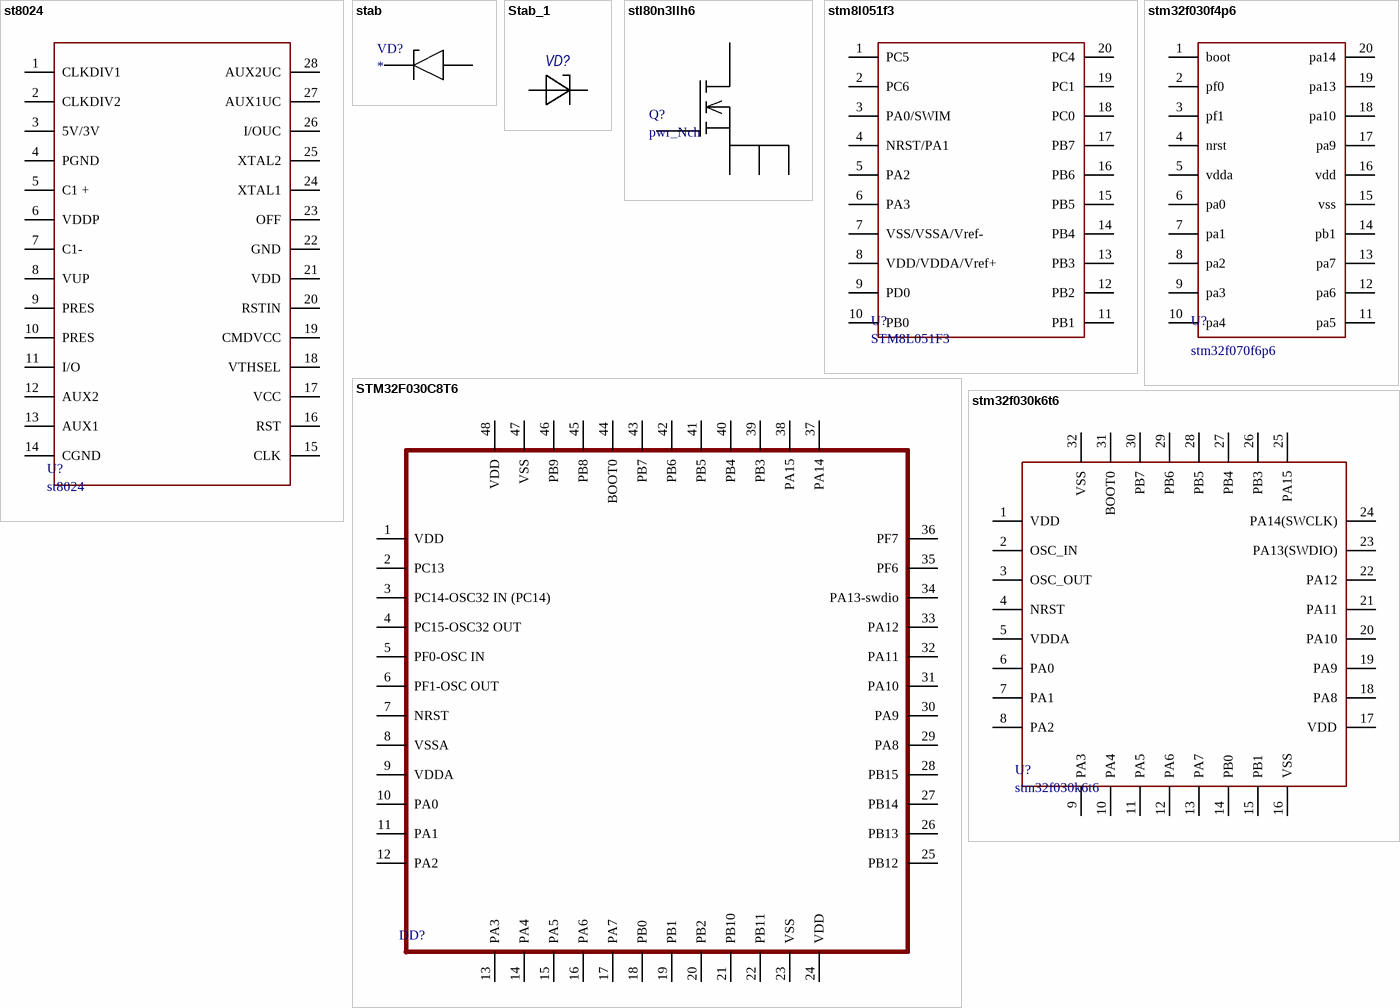
[diagram p6: symbols st8024 to stm32f030k6t6]

## st8024
designator U?
footprint SO28
pins: 1 CLKDIV1, 2 CLKDIV2, 3 5V/3V, 4 PGND, 5 C1 +, 6 VDDP, 7 C1-, 8 VUP, 9 PRES, 10 PRES, 11 I/O, 12 AUX2, 13 AUX1, 14 CGND, 15 CLK, 16 RST, 17 VCC, 18 VTHSEL, 19 CMDVCC, 20 RSTIN, 21 VDD, 22 GND, 23 OFF, 24 XTAL1, 25 XTAL2, 26 I/OUC, 27 AUX1UC, 28 AUX2UC

## stab
designator VD?
footprint DO214
footprint SOD-123
pins: A, K

## Stab_1
designator VD?  (value not drawn)
footprint SMC
pins: A, K

## stl80n3llh6
designator Q?, comment pwr_Nch
footprint powerFLAT_5x6
footprint PQFN3.3x3.3
pins: 1 S, 2 S, 3 S, 4 G, 5 D

## stm8l051f3
designator U?, comment STM8L051F3
footprint TSSOP20
pins: 1 PC5, 2 PC6, 3 PA0/SWIM, 4 NRST/PA1, 5 PA2, 6 PA3, 7 VSS/VSSA/Vref-, 8 VDD/VDDA/Vref+, 9 PD0, 10 PB0, 11 PB1, 12 PB2, 13 PB3, 14 PB4, 15 PB5, 16 PB6, 17 PB7, 18 PC0, 19 PC1, 20 PC4

## STM32F030C8T6
designator DD?, comment stm32f030c8t6  (value not drawn)
footprint LQFP48
pins: 1 VDD, 2 PC13, 3 PC14-OSC32 IN (PC14), 4 PC15-OSC32 OUT, 5 PF0-OSC IN, 6 PF1-OSC OUT, 7 NRST, 8 VSSA, 9 VDDA, 10 PA0, 11 PA1, 12 PA2, 13 PA3, 14 PA4, 15 PA5, 16 PA6, 17 PA7, 18 PB0, 19 PB1, 20 PB2, 21 PB10, 22 PB11, 23 VSS, 24 VDD, 25 PB12, 26 PB13, 27 PB14, 28 PB15, 29 PA8, 30 PA9, 31 PA10, 32 PA11, 33 PA12, 34 PA13-swdio, 35 PF6, 36 PF7, 37 PA14, 38 PA15, 39 PB3, 40 PB4, 41 PB5, 42 PB6, 43 PB7, 44 BOOT0, 45 PB8, 46 PB9, 47 VSS, 48 VDD

## stm32f030f4p6
designator U?, comment stm32f070f6p6
footprint TSSOP20
pins: 1 boot, 2 pf0, 3 pf1, 4 nrst, 5 vdda, 6 pa0, 7 pa1, 8 pa2, 9 pa3, 10 pa4, 11 pa5, 12 pa6, 13 pa7, 14 pb1, 15 vss, 16 vdd, 17 pa9, 18 pa10, 19 pa13, 20 pa14

## stm32f030k6t6
designator U?
footprint LQFP32
pins: 1 VDD, 2 OSC_IN, 3 OSC_OUT, 4 NRST, 5 VDDA, 6 PA0, 7 PA1, 8 PA2, 9 PA3, 10 PA4, 11 PA5, 12 PA6, 13 PA7, 14 PB0, 15 PB1, 16 VSS, 17 VDD, 18 PA8, 19 PA9, 20 PA10, 21 PA11, 22 PA12, 23 PA13(SWDIO), 24 PA14(SWCLK), 25 PA15, 26 PB3, 27 PB4, 28 PB5, 29 PB6, 30 PB7, 31 BOOT0, 32 VSS

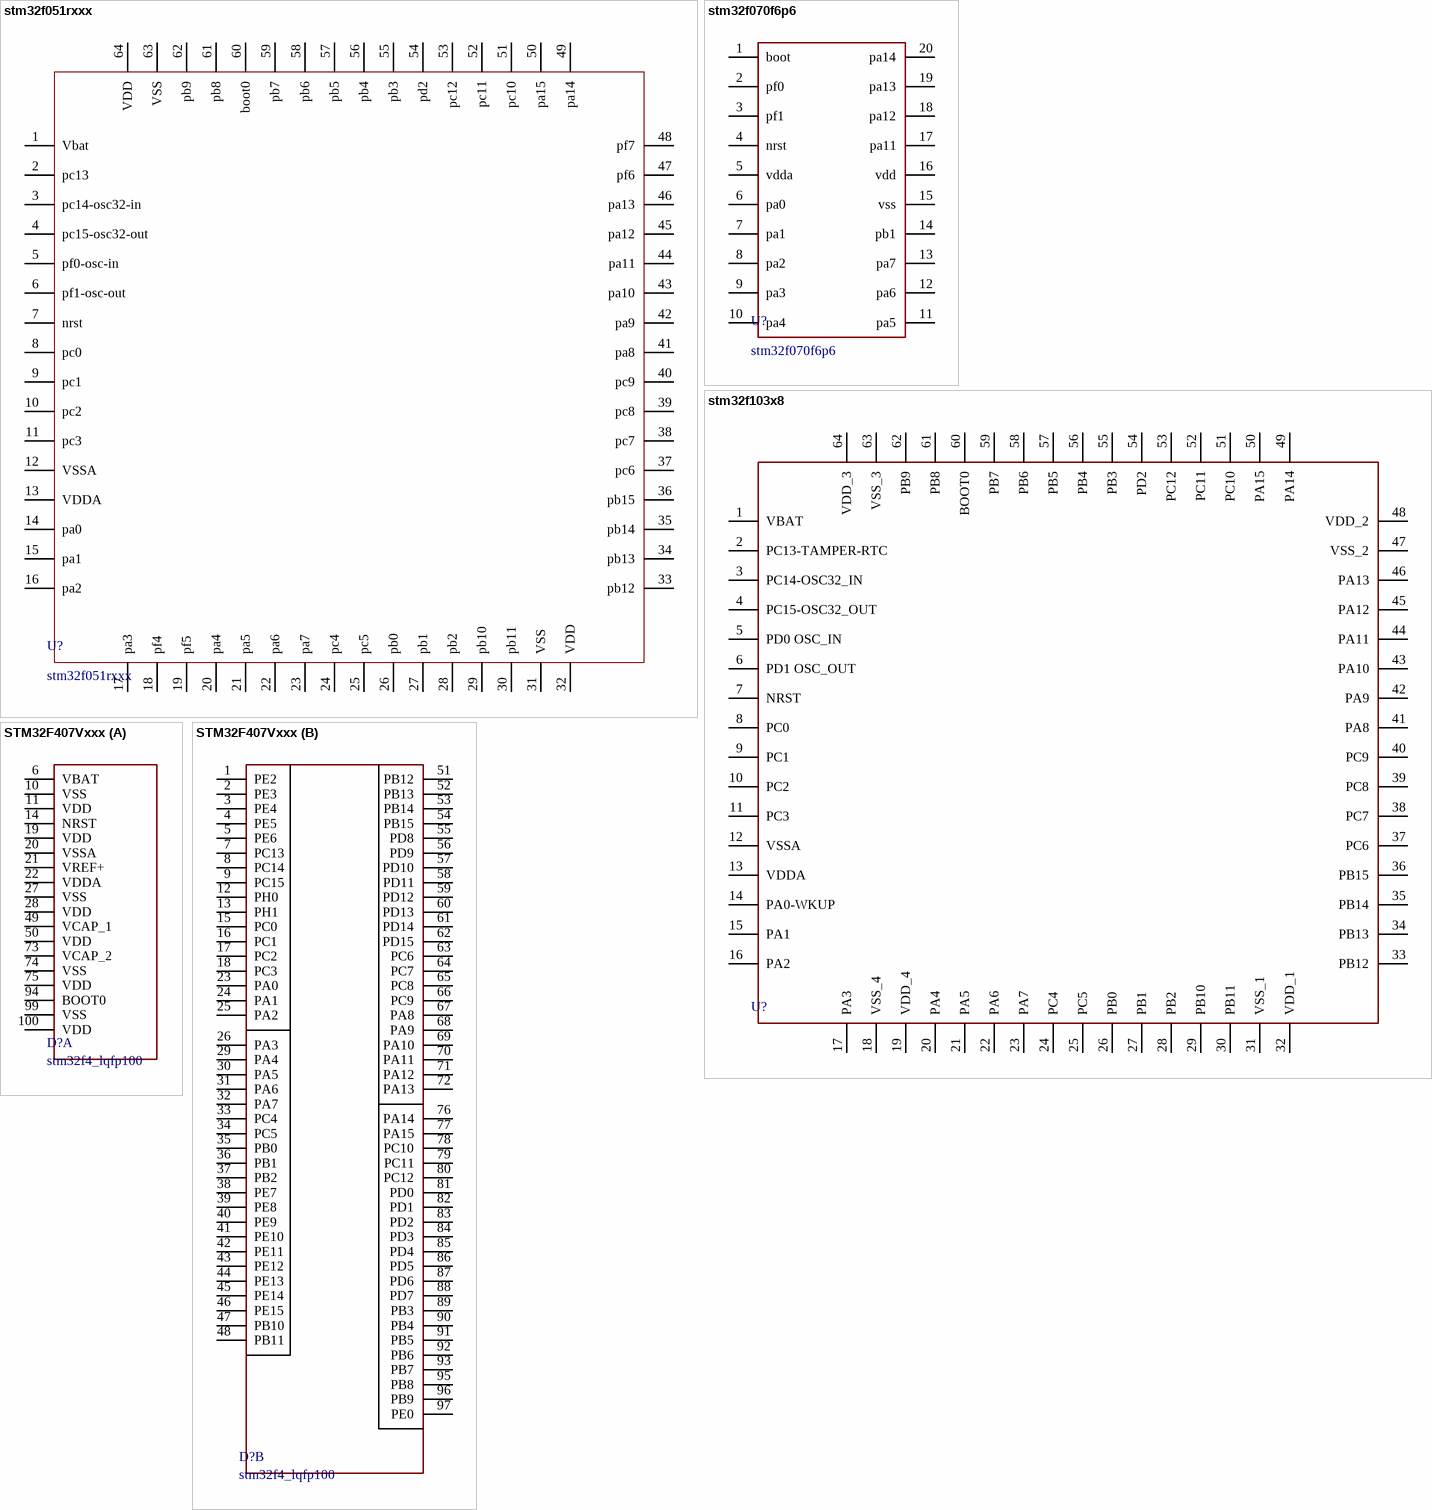
[diagram p7: symbols stm32f051rxxx to STM32F407Vxxx]

## stm32f051rxxx
designator U?
footprint LQFP64
pins: 1 Vbat, 2 pc13, 3 pc14-osc32-in, 4 pc15-osc32-out, 5 pf0-osc-in, 6 pf1-osc-out, 7 nrst, 8 pc0, 9 pc1, 10 pc2, 11 pc3, 12 VSSA, 13 VDDA, 14 pa0, 15 pa1, 16 pa2, 17 pa3, 18 pf4, 19 pf5, 20 pa4, 21 pa5, 22 pa6, 23 pa7, 24 pc4, 25 pc5, 26 pb0, 27 pb1, 28 pb2, 29 pb10, 30 pb11, 31 VSS, 32 VDD, 33 pb12, 34 pb13, 35 pb14, 36 pb15, 37 pc6, 38 pc7, 39 pc8, 40 pc9, 41 pa8, 42 pa9, 43 pa10, 44 pa11, 45 pa12, 46 pa13, 47 pf6, 48 pf7, 49 pa14, 50 pa15, 51 pc10, 52 pc11, 53 pc12, 54 pd2, 55 pb3, 56 pb4, 57 pb5, 58 pb6, 59 pb7, 60 boot0, 61 pb8, 62 pb9, 63 VSS, 64 VDD

## stm32f070f6p6
designator U?
footprint TSSOP20
pins: 1 boot, 2 pf0, 3 pf1, 4 nrst, 5 vdda, 6 pa0, 7 pa1, 8 pa2, 9 pa3, 10 pa4, 11 pa5, 12 pa6, 13 pa7, 14 pb1, 15 vss, 16 vdd, 17 pa11, 18 pa12, 19 pa13, 20 pa14

## stm32f103x8
designator U?  (value not drawn)
footprint LQFP64
pins: 1 VBAT, 2 PC13-TAMPER-RTC, 3 PC14-OSC32_IN, 4 PC15-OSC32_OUT, 5 PD0 OSC_IN, 6 PD1 OSC_OUT, 7 NRST, 8 PC0, 9 PC1, 10 PC2, 11 PC3, 12 VSSA, 13 VDDA, 14 PA0-WKUP, 15 PA1, 16 PA2, 17 PA3, 18 VSS_4, 19 VDD_4, 20 PA4, 21 PA5, 22 PA6, 23 PA7, 24 PC4, 25 PC5, 26 PB0, 27 PB1, 28 PB2, 29 PB10, 30 PB11, 31 VSS_1, 32 VDD_1, 33 PB12, 34 PB13, 35 PB14, 36 PB15, 37 PC6, 38 PC7, 39 PC8, 40 PC9, 41 PA8, 42 PA9, 43 PA10, 44 PA11, 45 PA12, 46 PA13, 47 VSS_2, 48 VDD_2, 49 PA14, 50 PA15, 51 PC10, 52 PC11, 53 PC12, 54 PD2, 55 PB3, 56 PB4, 57 PB5, 58 PB6, 59 PB7, 60 BOOT0, 61 PB8, 62 PB9, 63 VSS_3, 64 VDD_3

## STM32F407Vxxx
designator D?, comment stm32f4_lqfp100
footprint LQFP100
part A pins: 6 VBAT, 10 VSS, 11 VDD, 14 NRST, 19 VDD, 20 VSSA, 21 VREF+, 22 VDDA, 27 VSS, 28 VDD, 49 VCAP_1, 50 VDD, 73 VCAP_2, 74 VSS, 75 VDD, 94 BOOT0, 99 VSS, 100 VDD
part B pins: 1 PE2, 2 PE3, 3 PE4, 4 PE5, 5 PE6, 7 PC13, 8 PC14, 9 PC15, 12 PH0, 13 PH1, 15 PC0, 16 PC1, 17 PC2, 18 PC3, 23 PA0, 24 PA1, 25 PA2, 26 PA3, 29 PA4, 30 PA5, 31 PA6, 32 PA7, 33 PC4, 34 PC5, 35 PB0, 36 PB1, 37 PB2, 38 PE7, 39 PE8, 40 PE9, 41 PE10, 42 PE11, 43 PE12, 44 PE13, 45 PE14, 46 PE15, 47 PB10, 48 PB11, 51 PB12, 52 PB13, 53 PB14, 54 PB15, 55 PD8, 56 PD9, 57 PD10, 58 PD11, 59 PD12, 60 PD13, 61 PD14, 62 PD15, 63 PC6, 64 PC7, 65 PC8, 66 PC9, 67 PA8, 68 PA9, 69 PA10, 70 PA11, 71 PA12, 72 PA13, 76 PA14, 77 PA15, 78 PC10, 79 PC11, 80 PC12, 81 PD0, 82 PD1, 83 PD2, 84 PD3, 85 PD4, 86 PD5, 87 PD6, 88 PD7, 89 PB3, 90 PB4, 91 PB5, 92 PB6, 93 PB7, 95 PB8, 96 PB9, 97 PE0

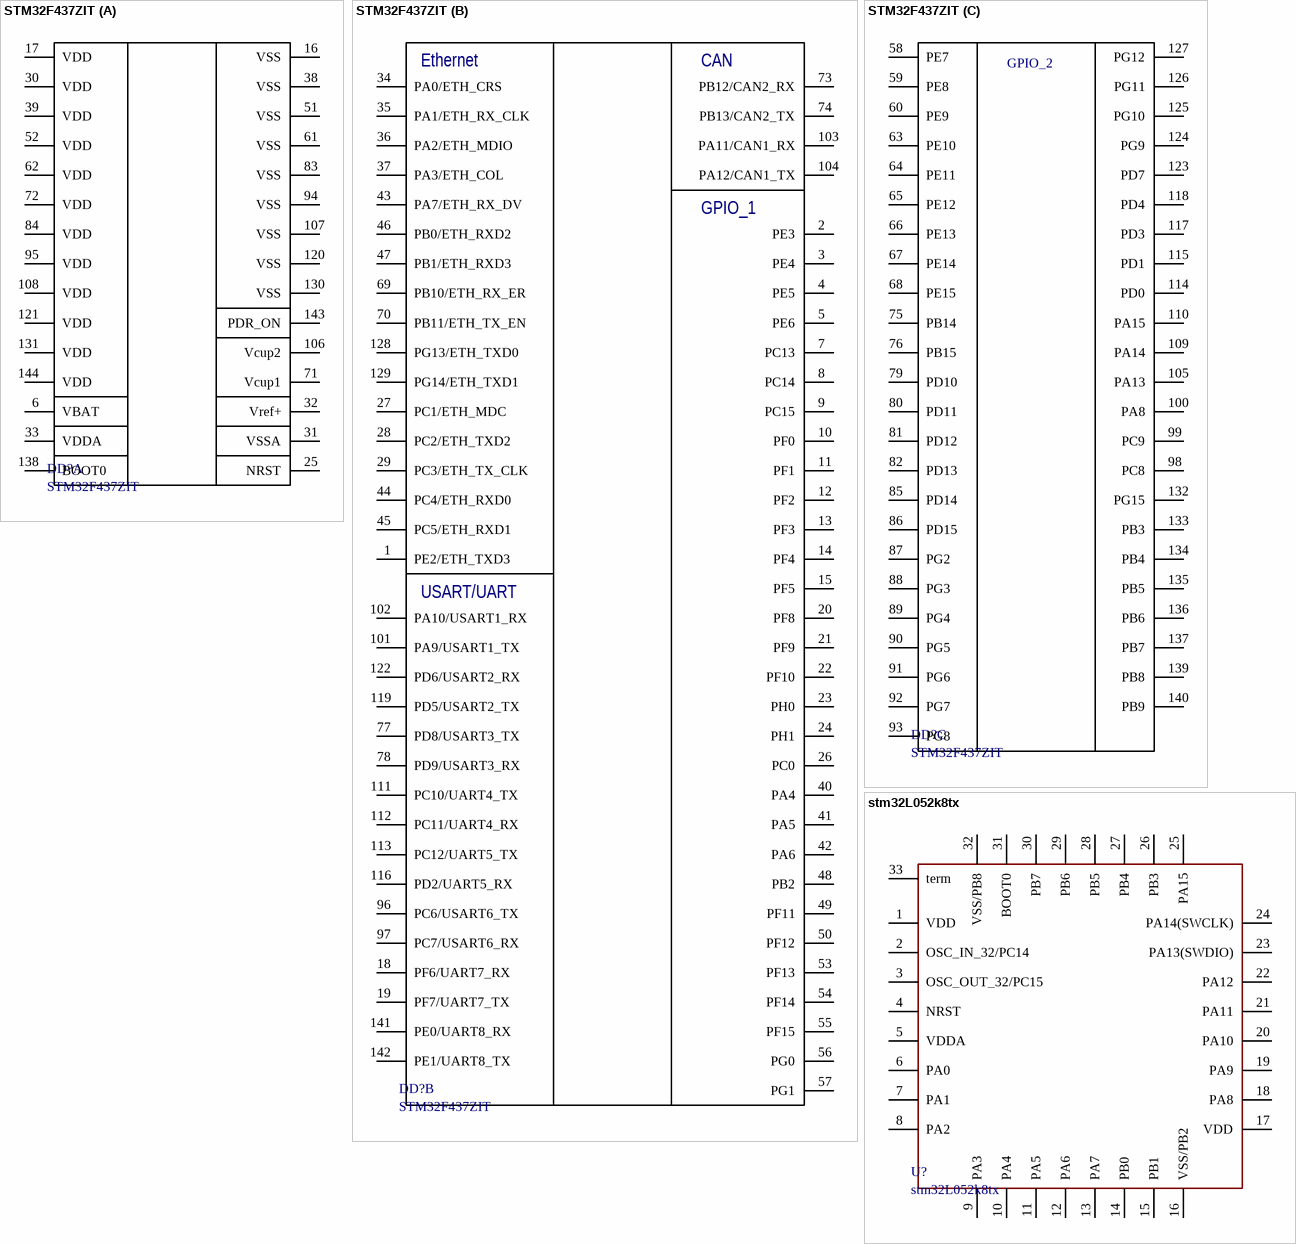
[diagram p8: symbols STM32F437ZIT to stm32L052k8tx]

## STM32F437ZIT
designator DD?
footprint LQFP144
part A pins: 6 VBAT, 16 VSS, 17 VDD, 25 NRST, 30 VDD, 31 VSSA, 32 Vref+, 33 VDDA, 38 VSS, 39 VDD, 51 VSS, 52 VDD, 61 VSS, 62 VDD, 71 Vcup1, 72 VDD, 83 VSS, 84 VDD, 94 VSS, 95 VDD, 106 Vcup2, 107 VSS, 108 VDD, 120 VSS, 121 VDD, 130 VSS, 131 VDD, 138 BOOT0, 143 PDR_ON, 144 VDD
part B pins: 1 PE2/ETH_TXD3 "ETH_TXD3", 2 PE3, 3 PE4, 4 PE5, 5 PE6, 7 PC13, 8 PC14, 9 PC15, 10 PF0, 11 PF1, 12 PF2, 13 PF3, 14 PF4, 15 PF5, 18 PF6/UART7_RX, 19 PF7/UART7_TX, 20 PF8, 21 PF9, 22 PF10, 23 PH0, 24 PH1, 26 PC0, 27 PC1/ETH_MDC "ETH_MDC", 28 PC2/ETH_TXD2 "ETH_TXD2", 29 PC3/ETH_TX_CLK "ETH_TX_CLK", 34 PA0/ETH_CRS "ETH_CRS", 35 PA1/ETH_RX_CLK "ETH_RX_CLK", 36 PA2/ETH_MDIO "ETH_MDIO", 37 PA3/ETH_COL "ETH_COL", 40 PA4, 41 PA5, 42 PA6, 43 PA7/ETH_RX_DV "ETH_RX_DV", 44 PC4/ETH_RXD0 "ETH_RXD0", 45 PC5/ETH_RXD1 "ETH_RXD1", 46 PB0/ETH_RXD2 "ETH_RXD2", 47 PB1/ETH_RXD3 "ETH_RXD3", 48 PB2, 49 PF11, 50 PF12, 53 PF13, 54 PF14, 55 PF15, 56 PG0, 57 PG1, 69 PB10/ETH_RX_ER "ETH_RX_ER", 70 PB11/ETH_TX_EN "ETH_TX_EN", 73 PB12/CAN2_RX, 74 PB13/CAN2_TX, 77 PD8/USART3_TX, 78 PD9/USART3_RX, 96 PC6/USART6_TX, 97 PC7/USART6_RX, 101 PA9/USART1_TX, 102 PA10/USART1_RX, 103 PA11/CAN1_RX, 104 PA12/CAN1_TX, 111 PC10/UART4_TX, 112 PC11/UART4_RX, 113 PC12/UART5_TX, 116 PD2/UART5_RX, 119 PD5/USART2_TX, 122 PD6/USART2_RX, 128 PG13/ETH_TXD0 "ETH_TXD0", 129 PG14/ETH_TXD1 "ETH_TXD1", 141 PE0/UART8_RX, 142 PE1/UART8_TX
part C pins: 58 PE7, 59 PE8, 60 PE9, 63 PE10, 64 PE11, 65 PE12, 66 PE13, 67 PE14, 68 PE15, 75 PB14, 76 PB15, 79 PD10, 80 PD11, 81 PD12, 82 PD13, 85 PD14, 86 PD15, 87 PG2, 88 PG3, 89 PG4, 90 PG5, 91 PG6, 92 PG7, 93 PG8, 98 PC8, 99 PC9, 100 PA8, 105 PA13, 109 PA14, 110 PA15, 114 PD0, 115 PD1, 117 PD3, 118 PD4, 123 PD7, 124 PG9, 125 PG10, 126 PG11, 127 PG12, 132 PG15, 133 PB3, 134 PB4, 135 PB5, 136 PB6, 137 PB7, 139 PB8, 140 PB9
part B text: Ethernet; CAN; GPIO_1; USART/UART
part C text: GPIO_2

## stm32L052k8tx
designator U?
footprint LQFP32
footprint UFQFPN32
pins: 1 VDD, 2 OSC_IN_32/PC14, 3 OSC_OUT_32/PC15, 4 NRST, 5 VDDA, 6 PA0, 7 PA1, 8 PA2, 9 PA3, 10 PA4, 11 PA5, 12 PA6, 13 PA7, 14 PB0, 15 PB1, 16 VSS/PB2, 17 VDD, 18 PA8, 19 PA9, 20 PA10, 21 PA11, 22 PA12, 23 PA13(SWDIO), 24 PA14(SWCLK), 25 PA15, 26 PB3, 27 PB4, 28 PB5, 29 PB6, 30 PB7, 31 BOOT0, 32 VSS/PB8, 33 term

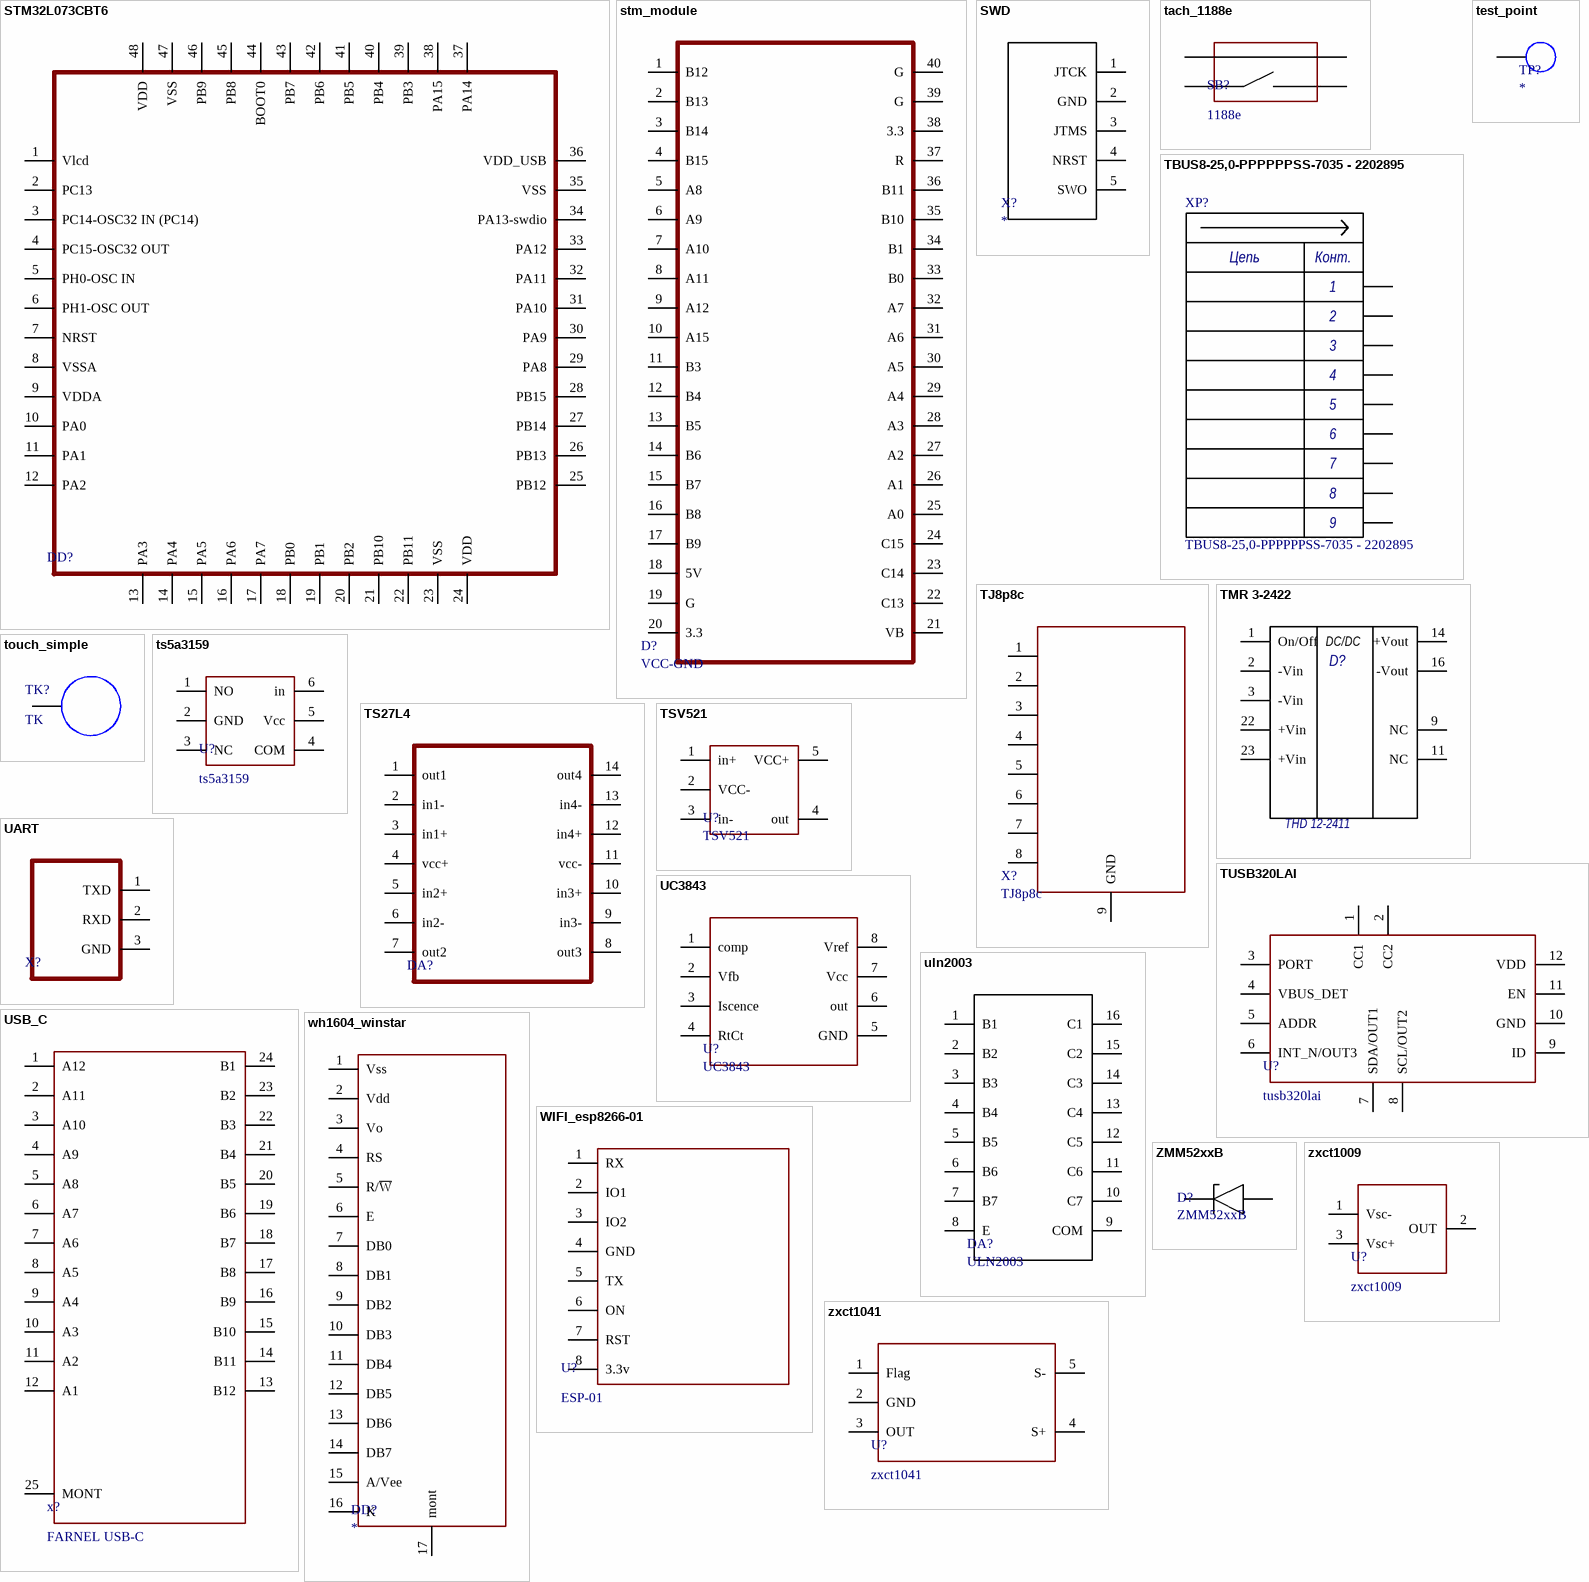
[diagram p9: symbols STM32L073CBT6 to zxct1041]

## STM32L073CBT6
designator DD?, comment STM32F030C8T6  (value not drawn)
footprint LQFP48
pins: 1 Vlcd, 2 PC13, 3 PC14-OSC32 IN (PC14), 4 PC15-OSC32 OUT, 5 PH0-OSC IN, 6 PH1-OSC OUT, 7 NRST, 8 VSSA, 9 VDDA, 10 PA0, 11 PA1, 12 PA2, 13 PA3, 14 PA4, 15 PA5, 16 PA6, 17 PA7, 18 PB0, 19 PB1, 20 PB2, 21 PB10, 22 PB11, 23 VSS, 24 VDD, 25 PB12, 26 PB13, 27 PB14, 28 PB15, 29 PA8, 30 PA9, 31 PA10, 32 PA11, 33 PA12, 34 PA13-swdio, 35 VSS, 36 VDD_USB, 37 PA14, 38 PA15, 39 PB3, 40 PB4, 41 PB5, 42 PB6, 43 PB7, 44 BOOT0, 45 PB8, 46 PB9, 47 VSS, 48 VDD

## stm_module
designator D?, comment VCC-GND
footprint DIP40
pins: 1 B12, 2 B13, 3 B14, 4 B15, 5 A8, 6 A9, 7 A10, 8 A11, 9 A12, 10 A15, 11 B3, 12 B4, 13 B5, 14 B6, 15 B7, 16 B8, 17 B9, 18 5V, 19 G, 20 3.3, 21 VB, 22 C13, 23 C14, 24 C15, 25 A0, 26 A1, 27 A2, 28 A3, 29 A4, 30 A5, 31 A6, 32 A7, 33 B0, 34 B1, 35 B10, 36 B11, 37 R, 38 3.3, 39 G, 40 G

## SWD
designator X?
footprint SWD
pins: 1 JTCK, 2 GND, 3 JTMS, 4 NRST, 5 SWO

## tach_1188e
designator SB?, comment 1188e
footprint 1188e
pins: 1, 1, 2, 3

## TBUS8-25,0-PPPPPPSS-7035 - 2202895
designator XP?
Type: TBUS8-25,0-PPPPPPSS-7035 - 2202895
footprint TBUS8-25,0-PPPPPPSS-7035 - 2202895
pins: 1 1c, 2 2c, 3 3c, 4 4c, 5 5c, 6 6c, 7 7e, 8 8e, 9
text: Цепь; Конт.

## test_point
designator TP?
footprint test_point
footprint test_point - power
footprint test_point _litle
footprint test_point _bat
pins: 1

## TJ8p8c
designator X?
footprint TJ8P8C
pins: 1, 2, 3, 4, 5, 6, 7, 8, 9 GND

## TMR 3-2422
designator D?  Type: THD 12-2411  (hidden comment: *)
footprint THD_12-2411
pins: 1 On/Off (power), 2 -Vin (power), 3 -Vin (power), 9 NC (power), 11 NC (power), 14 +Vout (power), 16 -Vout (power), 22 +Vin (power), 23 +Vin (power)
text: DC/DC

## touch_simple
designator TK?, comment TK
footprint touch_simple
pins: 1

## ts5a3159
designator U?
footprint sot-23-6
pins: 1 NO, 2 GND, 3 NC, 4 COM, 5 Vcc, 6 in

## TS27L4
designator DA?  (value not drawn)
footprint SO-14
footprint TSSOP14
pins: 1 out1, 2 in1-, 3 in1+, 4 vcc+ (power), 5 in2+, 6 in2-, 7 out2, 8 out3, 9 in3-, 10 in3+, 11 vcc- (power), 12 in4+, 13 in4-, 14 out4

## TSV521
designator U?
footprint sot-23-5
pins: 1 in+, 2 VCC-, 3 in-, 4 out, 5 VCC+

## TUSB320LAI
designator U?, comment tusb320lai
footprint X2QFN-12
pins: 1 CC1, 2 CC2, 3 PORT, 4 VBUS_DET, 5 ADDR, 6 INT_N/OUT3, 7 SDA/OUT1, 8 SCL/OUT2, 9 ID, 10 GND, 11 EN, 12 VDD

## UART
designator X?  (value not drawn)
footprint UART
pins: 1 TXD, 2 RXD, 3 GND

## UC3843
designator U?
footprint SO-8
pins: 1 comp, 2 Vfb, 3 Iscence, 4 RtCt, 5 GND, 6 out, 7 Vcc, 8 Vref

## uln2003
designator DA?, comment ULN2003
footprint TSSOP16
footprint SO-16
footprint DIP16
pins: 1 B1, 2 B2, 3 B3, 4 B4, 5 B5, 6 B6, 7 B7, 8 E, 9 COM, 10 C7, 11 C6, 12 C5, 13 C4, 14 C3, 15 C2, 16 C1

## USB_C
designator x?, comment FARNEL USB-C
footprint USB_C
footprint USB-C_mix_mount
pins: 1 A12, 2 A11, 3 A10, 4 A9, 5 A8, 6 A7, 7 A6, 8 A5, 9 A4, 10 A3, 11 A2, 12 A1, 13 B12, 14 B11, 15 B10, 16 B9, 17 B8, 18 B7, 19 B6, 20 B5, 21 B4, 22 B3, 23 B2, 24 B1, 25 MONT

## wh1604_winstar
designator DD?
footprint wh1404a
pins: 1 Vss, 2 Vdd, 3 Vo, 4 RS, 5 R/~{W}, 6 E, 7 DB0, 8 DB1, 9 DB2, 10 DB3, 11 DB4, 12 DB5, 13 DB6, 14 DB7, 15 A/Vee, 16 K, 17 mont

## WIFI_esp8266-01
designator U?, comment ESP-01
footprint WIFI_ESP-01
pins: 1 RX, 2 IO1, 3 IO2, 4 GND, 5 TX, 6 ON, 7 RST, 8 3.3v

## ZMM52xxB
designator D?
footprint miniMELF
pins: A, K

## zxct1009
designator U?
footprint sot23
pins: 1 Vsc-, 2 OUT, 3 Vsc+

## zxct1041
designator U?
footprint sot-23-5
pins: 1 Flag, 2 GND, 3 OUT, 4 S+, 5 S-